# Altium integrated library Microchip Microcontroller 32-Bit PIC32.IntLib: 78 symbols (part 2 of 5)
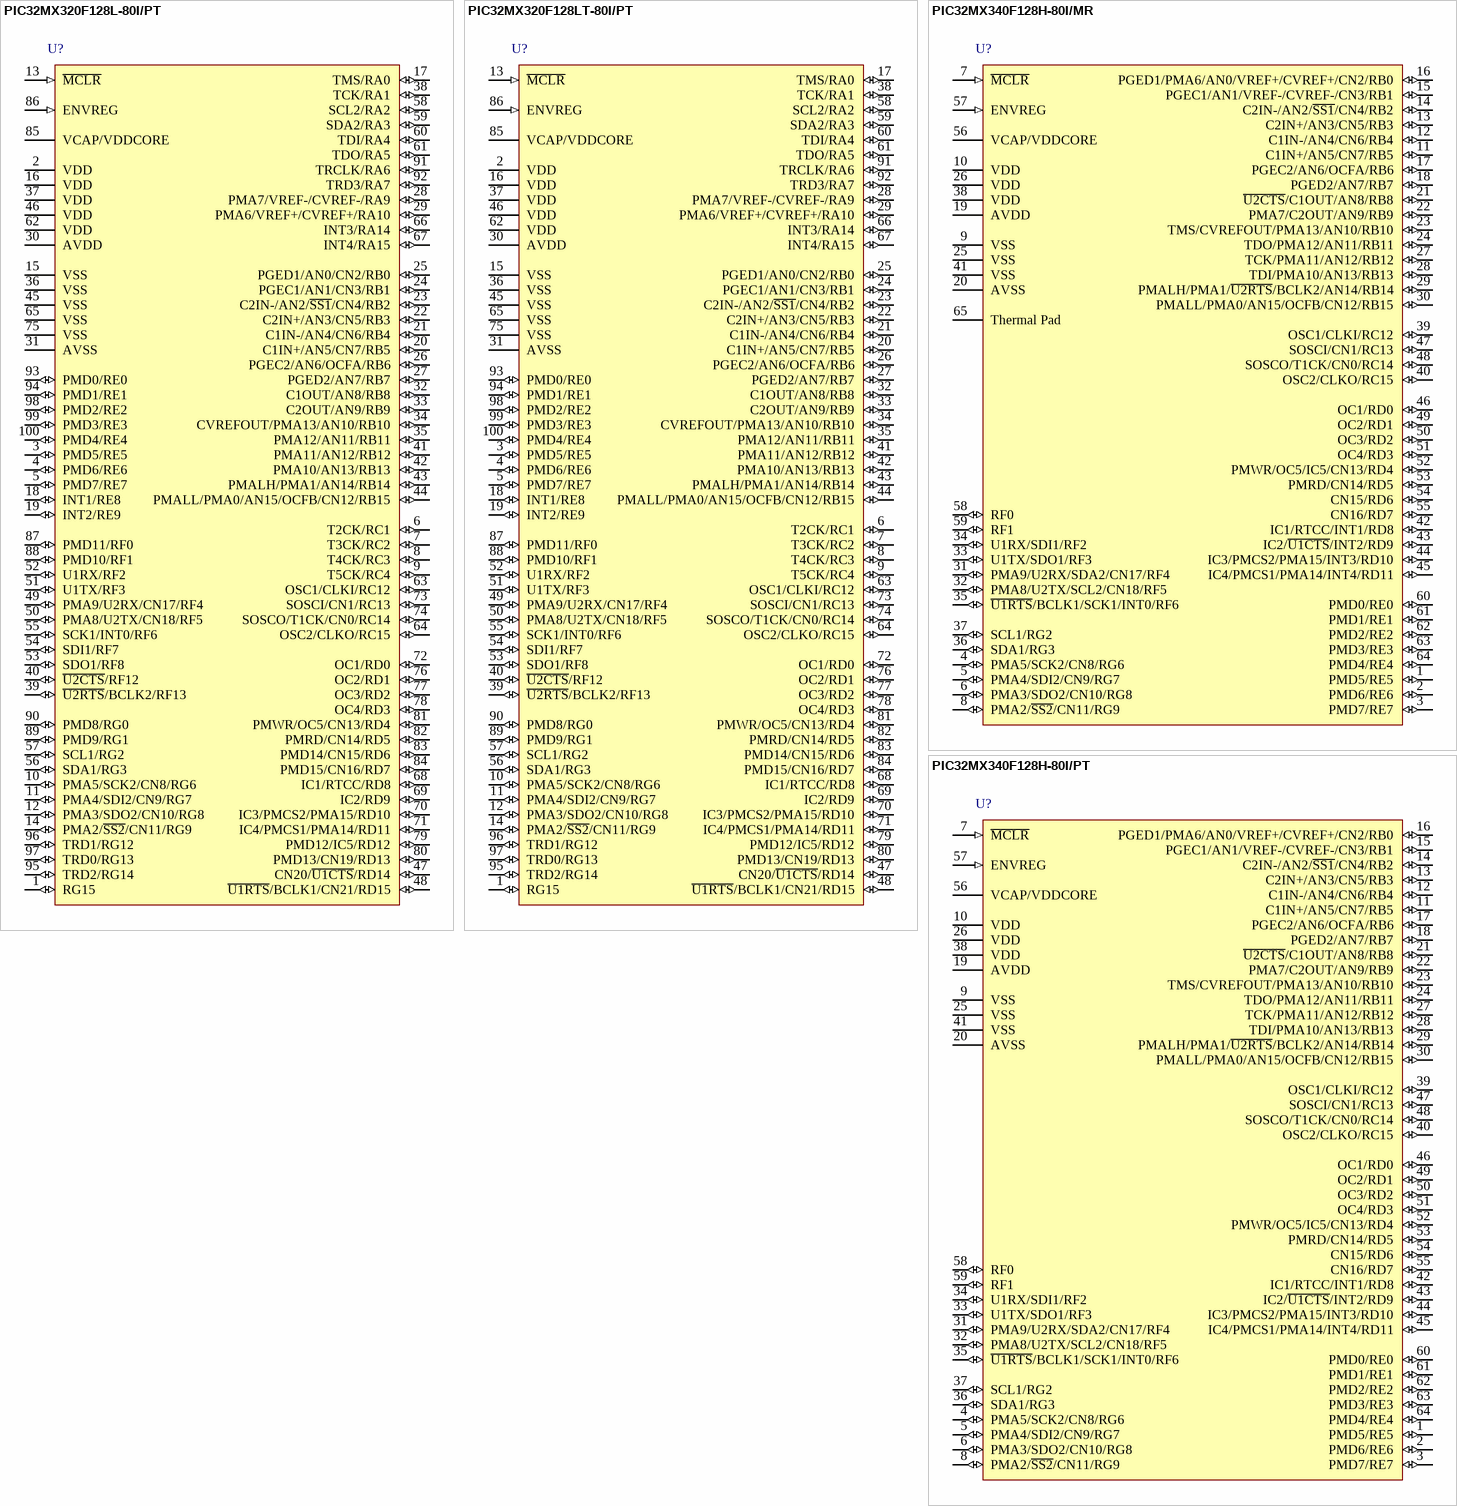
[diagram p23: symbols PIC32MX320F128L-80I/PT to PIC32MX340F128H-80I/PT]

## PIC32MX320F128LT-80I/PT
designator U?
High Performance 80 MHz MIPS-Based 32-Bit Flash Microcontroller, 128KB Program Memory, 100-pin TQFP, Tape and Reel; Published: 2-Dec-2009; DatasheetVersion: revF, Jun-2009; PackageVersion: revBB, Aug-2009; PackageReference: TQFP-PT100; Publisher: Altium Limited; PackageDescription: 100-Lead Plastic Thin Quad Flatpack (PT) - 12x12x1mm Body, 2.00mm [TQFP]; Supplier 1: Digi-Key; Supplier Part Number 1: PIC32MX320F128LT-80I/PT-ND; ComponentLink1Description: Datasheet; ComponentLink1URL: http://ww1.microchip.com/downloads/en/DeviceDoc/61143F.pdf; ComponentLink2Description: Packaging Specification; ComponentLink2URL: http://ww1.microchip.com/downloads/en/PackagingSpec/en012702.pdf; ComponentLink3Description: Microchip.com Home; ComponentLink3URL: http://www.microchip.com/
footprint TQFP-PT100_N (Thin QFP, 100-Leads, Body 12x12mm, Pitch 0.4mm, IPC Medium Density)
footprint TQFP-PT100_L (Thin QFP, 100-Leads, Body 12x12mm, Pitch 0.4mm, IPC High Density)
footprint TQFP-PT100_M (Thin QFP, 100-Leads, Body 12x12mm, Pitch 0.4mm, IPC Low Density)
pins: 1 RG15 (io), 2 VDD (power), 3 PMD5/RE5 (io), 4 PMD6/RE6 (io), 5 PMD7/RE7 (io), 6 T2CK/RC1 (io), 7 T3CK/RC2 (io), 8 T4CK/RC3 (io), 9 T5CK/RC4 (io), 10 PMA5/SCK2/CN8/RG6 (io), 11 PMA4/SDI2/CN9/RG7 (io), 12 PMA3/SDO2/CN10/RG8 (io), 13 ~{MCLR} (in), 14 PMA2/~{SS2}/CN11/RG9 (io), 15 VSS (power), 16 VDD (power), 17 TMS/RA0 (io), 18 INT1/RE8 (io), 19 INT2/RE9 (io), 20 C1IN+/AN5/CN7/RB5 (io), 21 C1IN-/AN4/CN6/RB4 (io), 22 C2IN+/AN3/CN5/RB3 (io), 23 C2IN-/AN2/~{SS1}/CN4/RB2 (io), 24 PGEC1/AN1/CN3/RB1 (io), 25 PGED1/AN0/CN2/RB0 (io), 26 PGEC2/AN6/OCFA/RB6 (io), 27 PGED2/AN7/RB7 (io), 28 PMA7/VREF-/CVREF-/RA9 (io), 29 PMA6/VREF+/CVREF+/RA10 (io), 30 AVDD (power), 31 AVSS (power), 32 C1OUT/AN8/RB8 (io), 33 C2OUT/AN9/RB9 (io), 34 CVREFOUT/PMA13/AN10/RB10 (io), 35 PMA12/AN11/RB11 (io), 36 VSS (power), 37 VDD (power), 38 TCK/RA1 (io), 39 ~{U2RTS}/BCLK2/RF13 (io), 40 ~{U2CTS}/RF12 (io), 41 PMA11/AN12/RB12 (io), 42 PMA10/AN13/RB13 (io), 43 PMALH/PMA1/AN14/RB14 (io), 44 PMALL/PMA0/AN15/OCFB/CN12/RB15 (io), 45 VSS (power), 46 VDD (power), 47 CN20/~{U1CTS}/RD14 (io), 48 ~{U1RTS}/BCLK1/CN21/RD15 (io), 49 PMA9/U2RX/CN17/RF4 (io), 50 PMA8/U2TX/CN18/RF5 (io), 51 U1TX/RF3 (io), 52 U1RX/RF2 (io), 53 SDO1/RF8 (io), 54 SDI1/RF7 (io), 55 SCK1/INT0/RF6 (io), 56 SDA1/RG3 (io), 57 SCL1/RG2 (io), 58 SCL2/RA2 (io), 59 SDA2/RA3 (io), 60 TDI/RA4 (io), 61 TDO/RA5 (io), 62 VDD (power), 63 OSC1/CLKI/RC12 (io), 64 OSC2/CLKO/RC15 (io), 65 VSS (power), 66 INT3/RA14 (io), 67 INT4/RA15 (io), 68 IC1/RTCC/RD8 (io), 69 IC2/RD9 (io), 70 IC3/PMCS2/PMA15/RD10 (io), 71 IC4/PMCS1/PMA14/RD11 (io), 72 OC1/RD0 (io), 73 SOSCI/CN1/RC13 (io), 74 SOSCO/T1CK/CN0/RC14 (io), 75 VSS (power), 76 OC2/RD1 (io), 77 OC3/RD2 (io), 78 OC4/RD3 (io), 79 PMD12/IC5/RD12 (io), 80 PMD13/CN19/RD13 (io), 81 PMWR/OC5/CN13/RD4 (io), 82 PMRD/CN14/RD5 (io), 83 PMD14/CN15/RD6 (io), 84 PMD15/CN16/RD7 (io), 85 VCAP/VDDCORE (power), 86 ENVREG (in), 87 PMD11/RF0 (io), 88 PMD10/RF1 (io), 89 PMD9/RG1 (io), 90 PMD8/RG0 (io), 91 TRCLK/RA6 (io), 92 TRD3/RA7 (io), 93 PMD0/RE0 (io), 94 PMD1/RE1 (io), 95 TRD2/RG14 (io), 96 TRD1/RG12 (io), 97 TRD0/RG13 (io), 98 PMD2/RE2 (io), 99 PMD3/RE3 (io), 100 PMD4/RE4 (io)

## PIC32MX340F128H-80I/MR
designator U?
High Performance 80 MHz MIPS-Based 32-Bit Flash Microcontroller, 128KB Program Memory, 64-pin QFN; Published: 2-Dec-2009; DatasheetVersion: revF, Jun-2009; PackageVersion: revBB, Aug-2009; PackageReference: QFN-MR64; Publisher: Altium Limited; PackageDescription: 64-Lead Plastic Quad Flat, No Lead Package (MR) - 9x9x0.9 mm Body [QFN]; Supplier 1: Digi-Key; Supplier Part Number 1: PIC32MX340F128H-80I/MR-ND; Supplier 2: Farnell; Supplier Part Number 2: 1740241; ComponentLink1Description: Datasheet; ComponentLink1URL: http://ww1.microchip.com/downloads/en/DeviceDoc/61143F.pdf; ComponentLink2Description: Packaging Specification; ComponentLink2URL: http://ww1.microchip.com/downloads/en/PackagingSpec/en012702.pdf; ComponentLink3Description: Microchip.com Home; ComponentLink3URL: http://www.microchip.com/
footprint QFN-MR64_N (QFN, 64-Leads, Body 9x9mm, Pitch 0.5mm, IPC Medium Density)
footprint QFN-MR64_L (QFN, 64-Leads, Body 9x9mm, Pitch 0.5mm, IPC High Density)
footprint QFN-MR64_M (QFN, 64-Leads, Body 9x9mm, Pitch 0.5mm, IPC Low Density)
pins: 1 PMD5/RE5 (io), 2 PMD6/RE6 (io), 3 PMD7/RE7 (io), 4 PMA5/SCK2/CN8/RG6 (io), 5 PMA4/SDI2/CN9/RG7 (io), 6 PMA3/SDO2/CN10/RG8 (io), 7 ~{MCLR} (in), 8 PMA2/~{SS2}/CN11/RG9 (io), 9 VSS (power), 10 VDD (power), 11 C1IN+/AN5/CN7/RB5 (io), 12 C1IN-/AN4/CN6/RB4 (io), 13 C2IN+/AN3/CN5/RB3 (io), 14 C2IN-/AN2/~{SS1}/CN4/RB2 (io), 15 PGEC1/AN1/VREF-/CVREF-/CN3/RB1 (io), 16 PGED1/PMA6/AN0/VREF+/CVREF+/CN2/RB0 (io), 17 PGEC2/AN6/OCFA/RB6 (io), 18 PGED2/AN7/RB7 (io), 19 AVDD (power), 20 AVSS (power), 21 ~{U2CTS}/C1OUT/AN8/RB8 (io), 22 PMA7/C2OUT/AN9/RB9 (io), 23 TMS/CVREFOUT/PMA13/AN10/RB10 (io), 24 TDO/PMA12/AN11/RB11 (io), 25 VSS (power), 26 VDD (power), 27 TCK/PMA11/AN12/RB12 (io), 28 TDI/PMA10/AN13/RB13 (io), 29 PMALH/PMA1/~{U2RTS}/BCLK2/AN14/RB14 (io), 30 PMALL/PMA0/AN15/OCFB/CN12/RB15 (io), 31 PMA9/U2RX/SDA2/CN17/RF4 (io), 32 PMA8/U2TX/SCL2/CN18/RF5 (io), 33 U1TX/SDO1/RF3 (io), 34 U1RX/SDI1/RF2 (io), 35 ~{U1RTS}/BCLK1/SCK1/INT0/RF6 (io), 36 SDA1/RG3 (io), 37 SCL1/RG2 (io), 38 VDD (power), 39 OSC1/CLKI/RC12 (io), 40 OSC2/CLKO/RC15 (io), 41 VSS (power), 42 IC1/RTCC/INT1/RD8 (io), 43 IC2/~{U1CTS}/INT2/RD9 (io), 44 IC3/PMCS2/PMA15/INT3/RD10 (io), 45 IC4/PMCS1/PMA14/INT4/RD11 (io), 46 OC1/RD0 (io), 47 SOSCI/CN1/RC13 (io), 48 SOSCO/T1CK/CN0/RC14 (io), 49 OC2/RD1 (io), 50 OC3/RD2 (io), 51 OC4/RD3 (io), 52 PMWR/OC5/IC5/CN13/RD4 (io), 53 PMRD/CN14/RD5 (io), 54 CN15/RD6 (io), 55 CN16/RD7 (io), 56 VCAP/VDDCORE (power), 57 ENVREG (in), 58 RF0 (io), 59 RF1 (io), 60 PMD0/RE0 (io), 61 PMD1/RE1 (io), 62 PMD2/RE2 (io), 63 PMD3/RE3 (io), 64 PMD4/RE4 (io), 65 Thermal Pad

## PIC32MX340F128H-80I/PT
designator U?
High Performance 80 MHz MIPS-Based 32-Bit Flash Microcontroller, 64KB Program Memory, 64-pin TQFP; Published: 2-Dec-2009; DatasheetVersion: revF, Jun-2009; PackageVersion: revBB, Aug-2009; PackageReference: TQFP-PT64; Publisher: Altium Limited; PackageDescription: 64-Lead Thin Plastic Quad Flat Pack (PT) - 10x10x1mm Body, 2.00mm [TQFP]; Supplier 1: Digi-Key; Supplier Part Number 1: PIC32MX340F128H-80I/PT-ND; Supplier 2: Farnell; Supplier Part Number 2: 1677914; Code_JEDEC: MS-026; ComponentLink1Description: Datasheet; ComponentLink1URL: http://ww1.microchip.com/downloads/en/DeviceDoc/61143F.pdf; ComponentLink2Description: Packaging Specification; ComponentLink2URL: http://ww1.microchip.com/downloads/en/PackagingSpec/en012702.pdf; ComponentLink3Description: Microchip.com Home; ComponentLink3URL: http://www.microchip.com/
footprint TQFP-PT64_N (Thin QFP, 64-Leads, Body 10x10mm, Pitch 0.5mm, IPC Medium Density)
footprint TQFP-PT64_L (Thin QFP, 64-Leads, Body 10x10mm, Pitch 0.5mm, IPC High Density)
footprint TQFP-PT64_M (Thin QFP, 64-Leads, Body 10x10mm, Pitch 0.5mm, IPC Low Density)
pins: 1 PMD5/RE5 (io), 2 PMD6/RE6 (io), 3 PMD7/RE7 (io), 4 PMA5/SCK2/CN8/RG6 (io), 5 PMA4/SDI2/CN9/RG7 (io), 6 PMA3/SDO2/CN10/RG8 (io), 7 ~{MCLR} (in), 8 PMA2/~{SS2}/CN11/RG9 (io), 9 VSS (power), 10 VDD (power), 11 C1IN+/AN5/CN7/RB5 (io), 12 C1IN-/AN4/CN6/RB4 (io), 13 C2IN+/AN3/CN5/RB3 (io), 14 C2IN-/AN2/~{SS1}/CN4/RB2 (io), 15 PGEC1/AN1/VREF-/CVREF-/CN3/RB1 (io), 16 PGED1/PMA6/AN0/VREF+/CVREF+/CN2/RB0 (io), 17 PGEC2/AN6/OCFA/RB6 (io), 18 PGED2/AN7/RB7 (io), 19 AVDD (power), 20 AVSS (power), 21 ~{U2CTS}/C1OUT/AN8/RB8 (io), 22 PMA7/C2OUT/AN9/RB9 (io), 23 TMS/CVREFOUT/PMA13/AN10/RB10 (io), 24 TDO/PMA12/AN11/RB11 (io), 25 VSS (power), 26 VDD (power), 27 TCK/PMA11/AN12/RB12 (io), 28 TDI/PMA10/AN13/RB13 (io), 29 PMALH/PMA1/~{U2RTS}/BCLK2/AN14/RB14 (io), 30 PMALL/PMA0/AN15/OCFB/CN12/RB15 (io), 31 PMA9/U2RX/SDA2/CN17/RF4 (io), 32 PMA8/U2TX/SCL2/CN18/RF5 (io), 33 U1TX/SDO1/RF3 (io), 34 U1RX/SDI1/RF2 (io), 35 ~{U1RTS}/BCLK1/SCK1/INT0/RF6 (io), 36 SDA1/RG3 (io), 37 SCL1/RG2 (io), 38 VDD (power), 39 OSC1/CLKI/RC12 (io), 40 OSC2/CLKO/RC15 (io), 41 VSS (power), 42 IC1/RTCC/INT1/RD8 (io), 43 IC2/~{U1CTS}/INT2/RD9 (io), 44 IC3/PMCS2/PMA15/INT3/RD10 (io), 45 IC4/PMCS1/PMA14/INT4/RD11 (io), 46 OC1/RD0 (io), 47 SOSCI/CN1/RC13 (io), 48 SOSCO/T1CK/CN0/RC14 (io), 49 OC2/RD1 (io), 50 OC3/RD2 (io), 51 OC4/RD3 (io), 52 PMWR/OC5/IC5/CN13/RD4 (io), 53 PMRD/CN14/RD5 (io), 54 CN15/RD6 (io), 55 CN16/RD7 (io), 56 VCAP/VDDCORE (power), 57 ENVREG (in), 58 RF0 (io), 59 RF1 (io), 60 PMD0/RE0 (io), 61 PMD1/RE1 (io), 62 PMD2/RE2 (io), 63 PMD3/RE3 (io), 64 PMD4/RE4 (io)

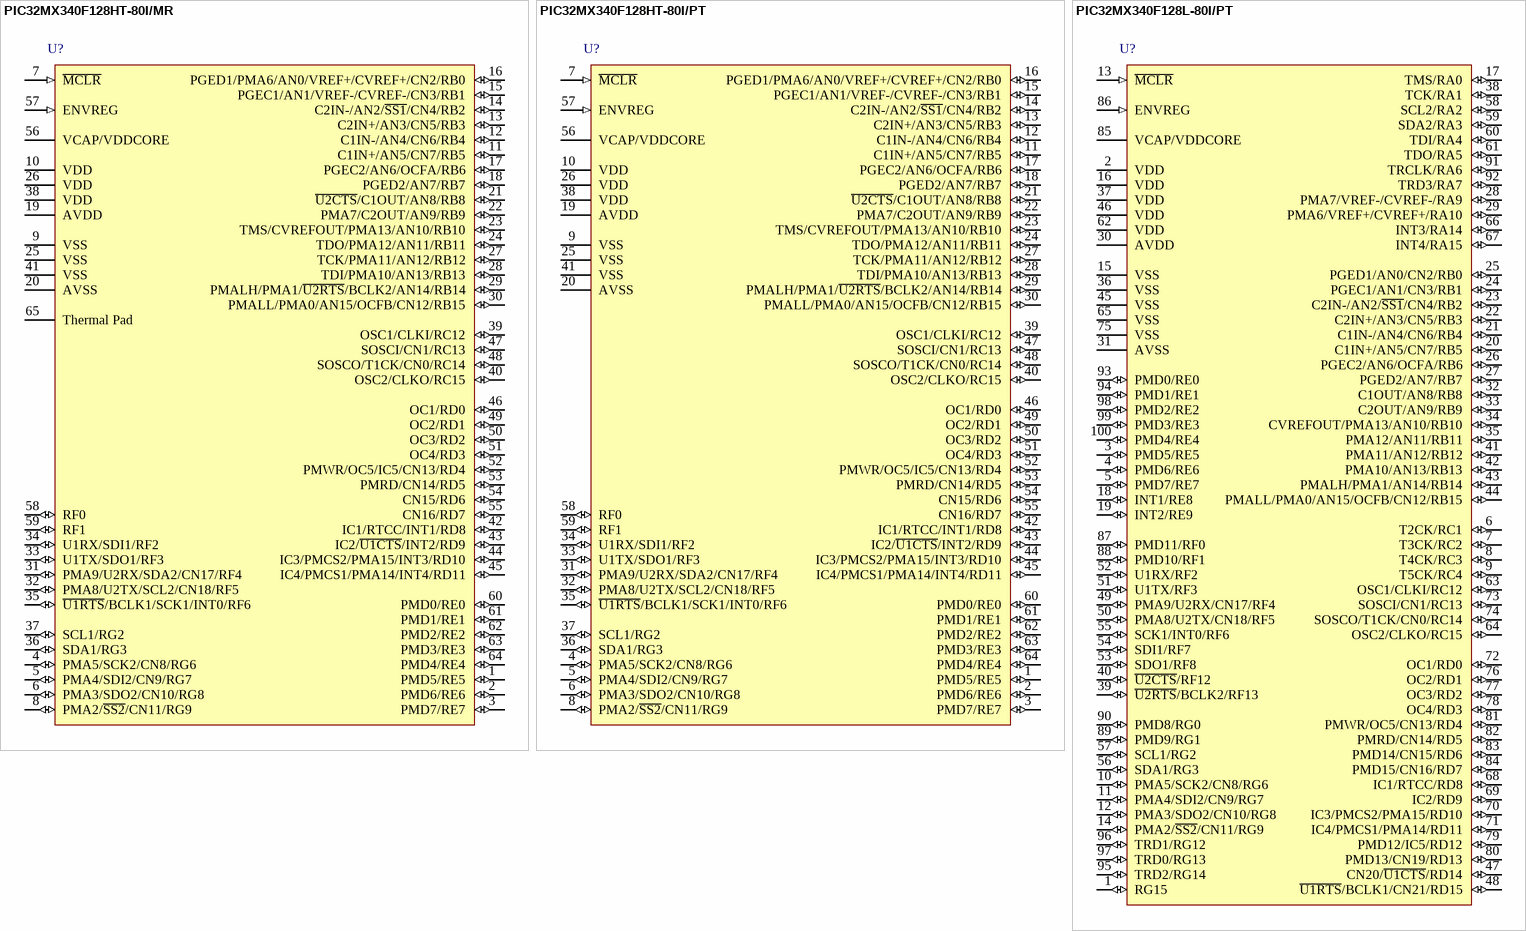
[diagram p4: symbols PIC32MX340F128HT-80I/MR to PIC32MX340F128L-80I/PT]

## PIC32MX340F128HT-80I/MR
designator U?
High Performance 80 MHz MIPS-Based 32-Bit Flash Microcontroller, 64KB Program Memory, 64-pin QFN, Tape and Reel; Published: 2-Dec-2009; DatasheetVersion: revF, Jun-2009; PackageVersion: revBB, Aug-2009; PackageReference: QFN-MR64; Publisher: Altium Limited; PackageDescription: 64-Lead Plastic Quad Flat, No Lead Package (MR) - 9x9x0.9 mm Body [QFN]; Supplier 1: Digi-Key; Supplier Part Number 1: PIC32MX340F128HT-80I/MR-ND; ComponentLink1Description: Datasheet; ComponentLink1URL: http://ww1.microchip.com/downloads/en/DeviceDoc/61143F.pdf; ComponentLink2Description: Packaging Specification; ComponentLink2URL: http://ww1.microchip.com/downloads/en/PackagingSpec/en012702.pdf; ComponentLink3Description: Microchip.com Home; ComponentLink3URL: http://www.microchip.com/
footprint QFN-MR64_N (QFN, 64-Leads, Body 9x9mm, Pitch 0.5mm, IPC Medium Density)
footprint QFN-MR64_L (QFN, 64-Leads, Body 9x9mm, Pitch 0.5mm, IPC High Density)
footprint QFN-MR64_M (QFN, 64-Leads, Body 9x9mm, Pitch 0.5mm, IPC Low Density)
pins: 1 PMD5/RE5 (io), 2 PMD6/RE6 (io), 3 PMD7/RE7 (io), 4 PMA5/SCK2/CN8/RG6 (io), 5 PMA4/SDI2/CN9/RG7 (io), 6 PMA3/SDO2/CN10/RG8 (io), 7 ~{MCLR} (in), 8 PMA2/~{SS2}/CN11/RG9 (io), 9 VSS (power), 10 VDD (power), 11 C1IN+/AN5/CN7/RB5 (io), 12 C1IN-/AN4/CN6/RB4 (io), 13 C2IN+/AN3/CN5/RB3 (io), 14 C2IN-/AN2/~{SS1}/CN4/RB2 (io), 15 PGEC1/AN1/VREF-/CVREF-/CN3/RB1 (io), 16 PGED1/PMA6/AN0/VREF+/CVREF+/CN2/RB0 (io), 17 PGEC2/AN6/OCFA/RB6 (io), 18 PGED2/AN7/RB7 (io), 19 AVDD (power), 20 AVSS (power), 21 ~{U2CTS}/C1OUT/AN8/RB8 (io), 22 PMA7/C2OUT/AN9/RB9 (io), 23 TMS/CVREFOUT/PMA13/AN10/RB10 (io), 24 TDO/PMA12/AN11/RB11 (io), 25 VSS (power), 26 VDD (power), 27 TCK/PMA11/AN12/RB12 (io), 28 TDI/PMA10/AN13/RB13 (io), 29 PMALH/PMA1/~{U2RTS}/BCLK2/AN14/RB14 (io), 30 PMALL/PMA0/AN15/OCFB/CN12/RB15 (io), 31 PMA9/U2RX/SDA2/CN17/RF4 (io), 32 PMA8/U2TX/SCL2/CN18/RF5 (io), 33 U1TX/SDO1/RF3 (io), 34 U1RX/SDI1/RF2 (io), 35 ~{U1RTS}/BCLK1/SCK1/INT0/RF6 (io), 36 SDA1/RG3 (io), 37 SCL1/RG2 (io), 38 VDD (power), 39 OSC1/CLKI/RC12 (io), 40 OSC2/CLKO/RC15 (io), 41 VSS (power), 42 IC1/RTCC/INT1/RD8 (io), 43 IC2/~{U1CTS}/INT2/RD9 (io), 44 IC3/PMCS2/PMA15/INT3/RD10 (io), 45 IC4/PMCS1/PMA14/INT4/RD11 (io), 46 OC1/RD0 (io), 47 SOSCI/CN1/RC13 (io), 48 SOSCO/T1CK/CN0/RC14 (io), 49 OC2/RD1 (io), 50 OC3/RD2 (io), 51 OC4/RD3 (io), 52 PMWR/OC5/IC5/CN13/RD4 (io), 53 PMRD/CN14/RD5 (io), 54 CN15/RD6 (io), 55 CN16/RD7 (io), 56 VCAP/VDDCORE (power), 57 ENVREG (in), 58 RF0 (io), 59 RF1 (io), 60 PMD0/RE0 (io), 61 PMD1/RE1 (io), 62 PMD2/RE2 (io), 63 PMD3/RE3 (io), 64 PMD4/RE4 (io), 65 Thermal Pad

## PIC32MX340F128HT-80I/PT
designator U?
High Performance 80 MHz MIPS-Based 32-Bit Flash Microcontroller, 128KB Program Memory, 64-pin TQFP, Tape and Reel; Published: 29-Jan-2009; LatestRevisionDate: 2-Dec-2009; LatestRevisionNote: Datasheet updated to version revF, Jun-2009.; DatasheetVersion: revF, Jun-2009; PackageVersion: revBB, Aug-2009; PackageReference: TQFP-PT64; Publisher: Altium Limited; PackageDescription: 64-Lead Thin Plastic Quad Flat Pack (PT) - 10x10x1mm Body, 2.00mm [TQFP]; Supplier 1: Digi-Key; Supplier Part Number 1: PIC32MX340F128HT-80I/PT-ND; Code_JEDEC: MS-026; ComponentLink1Description: Datasheet; ComponentLink1URL: http://ww1.microchip.com/downloads/en/DeviceDoc/61143F.pdf; ComponentLink2Description: Packaging Specification; ComponentLink2URL: http://ww1.microchip.com/downloads/en/PackagingSpec/en012702.pdf; ComponentLink3Description: Microchip.com Home; ComponentLink3URL: http://www.microchip.com/
footprint TQFP-PT64_N (Thin QFP, 64-Leads, Body 10x10mm, Pitch 0.5mm, IPC Medium Density)
footprint TQFP-PT64_L (Thin QFP, 64-Leads, Body 10x10mm, Pitch 0.5mm, IPC High Density)
footprint TQFP-PT64_M (Thin QFP, 64-Leads, Body 10x10mm, Pitch 0.5mm, IPC Low Density)
pins: 1 PMD5/RE5 (io), 2 PMD6/RE6 (io), 3 PMD7/RE7 (io), 4 PMA5/SCK2/CN8/RG6 (io), 5 PMA4/SDI2/CN9/RG7 (io), 6 PMA3/SDO2/CN10/RG8 (io), 7 ~{MCLR} (in), 8 PMA2/~{SS2}/CN11/RG9 (io), 9 VSS (power), 10 VDD (power), 11 C1IN+/AN5/CN7/RB5 (io), 12 C1IN-/AN4/CN6/RB4 (io), 13 C2IN+/AN3/CN5/RB3 (io), 14 C2IN-/AN2/~{SS1}/CN4/RB2 (io), 15 PGEC1/AN1/VREF-/CVREF-/CN3/RB1 (io), 16 PGED1/PMA6/AN0/VREF+/CVREF+/CN2/RB0 (io), 17 PGEC2/AN6/OCFA/RB6 (io), 18 PGED2/AN7/RB7 (io), 19 AVDD (power), 20 AVSS (power), 21 ~{U2CTS}/C1OUT/AN8/RB8 (io), 22 PMA7/C2OUT/AN9/RB9 (io), 23 TMS/CVREFOUT/PMA13/AN10/RB10 (io), 24 TDO/PMA12/AN11/RB11 (io), 25 VSS (power), 26 VDD (power), 27 TCK/PMA11/AN12/RB12 (io), 28 TDI/PMA10/AN13/RB13 (io), 29 PMALH/PMA1/~{U2RTS}/BCLK2/AN14/RB14 (io), 30 PMALL/PMA0/AN15/OCFB/CN12/RB15 (io), 31 PMA9/U2RX/SDA2/CN17/RF4 (io), 32 PMA8/U2TX/SCL2/CN18/RF5 (io), 33 U1TX/SDO1/RF3 (io), 34 U1RX/SDI1/RF2 (io), 35 ~{U1RTS}/BCLK1/SCK1/INT0/RF6 (io), 36 SDA1/RG3 (io), 37 SCL1/RG2 (io), 38 VDD (power), 39 OSC1/CLKI/RC12 (io), 40 OSC2/CLKO/RC15 (io), 41 VSS (power), 42 IC1/RTCC/INT1/RD8 (io), 43 IC2/~{U1CTS}/INT2/RD9 (io), 44 IC3/PMCS2/PMA15/INT3/RD10 (io), 45 IC4/PMCS1/PMA14/INT4/RD11 (io), 46 OC1/RD0 (io), 47 SOSCI/CN1/RC13 (io), 48 SOSCO/T1CK/CN0/RC14 (io), 49 OC2/RD1 (io), 50 OC3/RD2 (io), 51 OC4/RD3 (io), 52 PMWR/OC5/IC5/CN13/RD4 (io), 53 PMRD/CN14/RD5 (io), 54 CN15/RD6 (io), 55 CN16/RD7 (io), 56 VCAP/VDDCORE (power), 57 ENVREG (in), 58 RF0 (io), 59 RF1 (io), 60 PMD0/RE0 (io), 61 PMD1/RE1 (io), 62 PMD2/RE2 (io), 63 PMD3/RE3 (io), 64 PMD4/RE4 (io)

## PIC32MX340F128L-80I/PT
designator U?
High Performance 80 MHz MIPS-Based 32-Bit Flash Microcontroller, 128KB Program Memory, 100-pin TQFP; Published: 29-Jan-2009; LatestRevisionDate: 2-Dec-2009; LatestRevisionNote: Datasheet updated to version revF, Jun-2009.; DatasheetVersion: revF, Jun-2009; PackageVersion: revBB, Aug-2009; PackageReference: TQFP-PT100; Publisher: Altium Limited; PackageDescription: 100-Lead Plastic Thin Quad Flatpack (PT) - 12x12x1mm Body, 2.00mm [TQFP]; Supplier 1: Digi-Key; Supplier Part Number 1: PIC32MX340F128L-80I/PT-ND; Supplier 2: Farnell; Supplier Part Number 2: 1677916; ComponentLink1Description: Datasheet; ComponentLink1URL: http://ww1.microchip.com/downloads/en/DeviceDoc/61143F.pdf; ComponentLink2Description: Packaging Specification; ComponentLink2URL: http://ww1.microchip.com/downloads/en/PackagingSpec/en012702.pdf; ComponentLink3Description: Microchip.com Home; ComponentLink3URL: http://www.microchip.com/
footprint TQFP-PT100_N (Thin QFP, 100-Leads, Body 12x12mm, Pitch 0.4mm, IPC Medium Density)
footprint TQFP-PT100_L (Thin QFP, 100-Leads, Body 12x12mm, Pitch 0.4mm, IPC High Density)
footprint TQFP-PT100_M (Thin QFP, 100-Leads, Body 12x12mm, Pitch 0.4mm, IPC Low Density)
pins: 1 RG15 (io), 2 VDD (power), 3 PMD5/RE5 (io), 4 PMD6/RE6 (io), 5 PMD7/RE7 (io), 6 T2CK/RC1 (io), 7 T3CK/RC2 (io), 8 T4CK/RC3 (io), 9 T5CK/RC4 (io), 10 PMA5/SCK2/CN8/RG6 (io), 11 PMA4/SDI2/CN9/RG7 (io), 12 PMA3/SDO2/CN10/RG8 (io), 13 ~{MCLR} (in), 14 PMA2/~{SS2}/CN11/RG9 (io), 15 VSS (power), 16 VDD (power), 17 TMS/RA0 (io), 18 INT1/RE8 (io), 19 INT2/RE9 (io), 20 C1IN+/AN5/CN7/RB5 (io), 21 C1IN-/AN4/CN6/RB4 (io), 22 C2IN+/AN3/CN5/RB3 (io), 23 C2IN-/AN2/~{SS1}/CN4/RB2 (io), 24 PGEC1/AN1/CN3/RB1 (io), 25 PGED1/AN0/CN2/RB0 (io), 26 PGEC2/AN6/OCFA/RB6 (io), 27 PGED2/AN7/RB7 (io), 28 PMA7/VREF-/CVREF-/RA9 (io), 29 PMA6/VREF+/CVREF+/RA10 (io), 30 AVDD (power), 31 AVSS (power), 32 C1OUT/AN8/RB8 (io), 33 C2OUT/AN9/RB9 (io), 34 CVREFOUT/PMA13/AN10/RB10 (io), 35 PMA12/AN11/RB11 (io), 36 VSS (power), 37 VDD (power), 38 TCK/RA1 (io), 39 ~{U2RTS}/BCLK2/RF13 (io), 40 ~{U2CTS}/RF12 (io), 41 PMA11/AN12/RB12 (io), 42 PMA10/AN13/RB13 (io), 43 PMALH/PMA1/AN14/RB14 (io), 44 PMALL/PMA0/AN15/OCFB/CN12/RB15 (io), 45 VSS (power), 46 VDD (power), 47 CN20/~{U1CTS}/RD14 (io), 48 ~{U1RTS}/BCLK1/CN21/RD15 (io), 49 PMA9/U2RX/CN17/RF4 (io), 50 PMA8/U2TX/CN18/RF5 (io), 51 U1TX/RF3 (io), 52 U1RX/RF2 (io), 53 SDO1/RF8 (io), 54 SDI1/RF7 (io), 55 SCK1/INT0/RF6 (io), 56 SDA1/RG3 (io), 57 SCL1/RG2 (io), 58 SCL2/RA2 (io), 59 SDA2/RA3 (io), 60 TDI/RA4 (io), 61 TDO/RA5 (io), 62 VDD (power), 63 OSC1/CLKI/RC12 (io), 64 OSC2/CLKO/RC15 (io), 65 VSS (power), 66 INT3/RA14 (io), 67 INT4/RA15 (io), 68 IC1/RTCC/RD8 (io), 69 IC2/RD9 (io), 70 IC3/PMCS2/PMA15/RD10 (io), 71 IC4/PMCS1/PMA14/RD11 (io), 72 OC1/RD0 (io), 73 SOSCI/CN1/RC13 (io), 74 SOSCO/T1CK/CN0/RC14 (io), 75 VSS (power), 76 OC2/RD1 (io), 77 OC3/RD2 (io), 78 OC4/RD3 (io), 79 PMD12/IC5/RD12 (io), 80 PMD13/CN19/RD13 (io), 81 PMWR/OC5/CN13/RD4 (io), 82 PMRD/CN14/RD5 (io), 83 PMD14/CN15/RD6 (io), 84 PMD15/CN16/RD7 (io), 85 VCAP/VDDCORE (power), 86 ENVREG (in), 87 PMD11/RF0 (io), 88 PMD10/RF1 (io), 89 PMD9/RG1 (io), 90 PMD8/RG0 (io), 91 TRCLK/RA6 (io), 92 TRD3/RA7 (io), 93 PMD0/RE0 (io), 94 PMD1/RE1 (io), 95 TRD2/RG14 (io), 96 TRD1/RG12 (io), 97 TRD0/RG13 (io), 98 PMD2/RE2 (io), 99 PMD3/RE3 (io), 100 PMD4/RE4 (io)

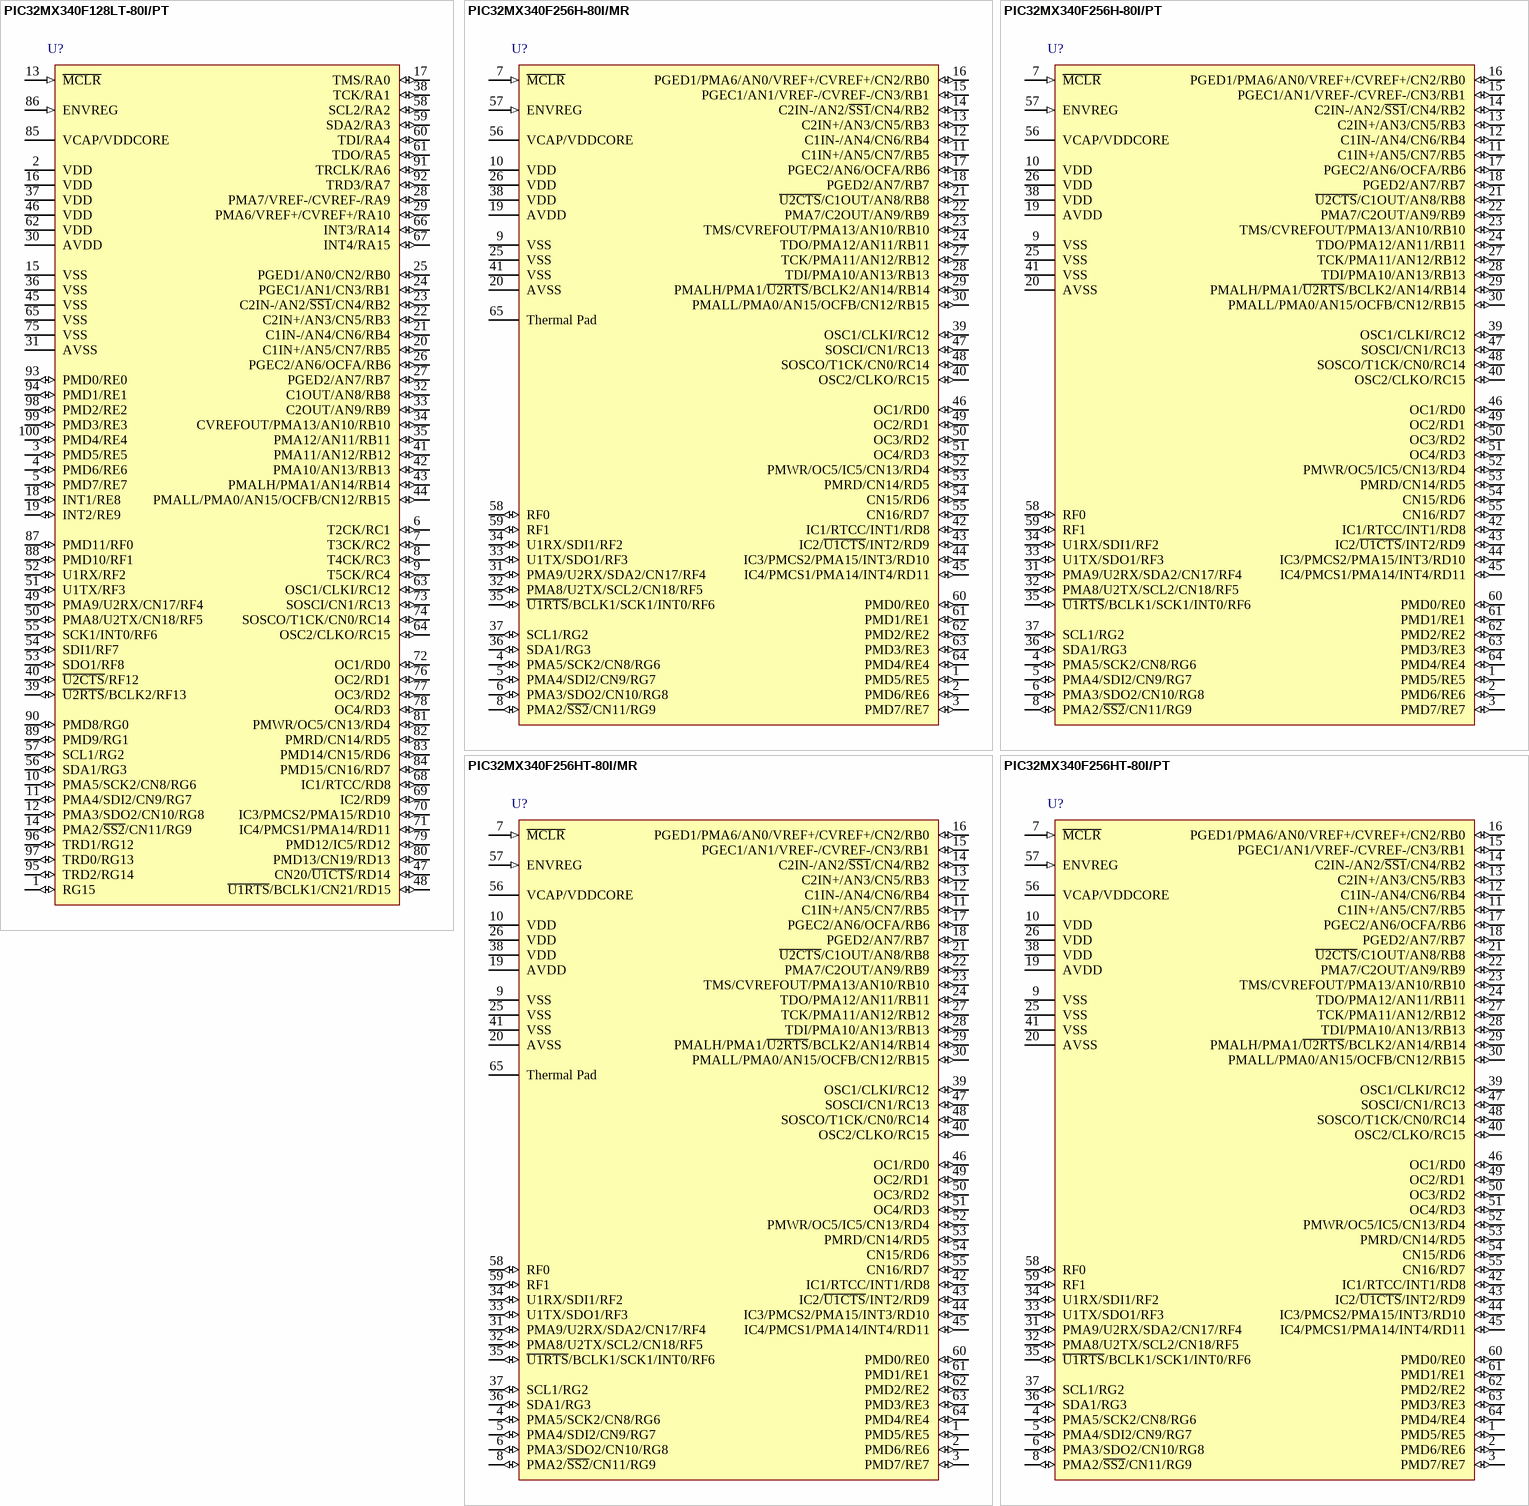
[diagram p5: symbols PIC32MX340F128LT-80I/PT to PIC32MX340F256HT-80I/PT]

## PIC32MX340F128LT-80I/PT
designator U?
High Performance 80 MHz MIPS-Based 32-Bit Flash Microcontroller, 128KB Program Memory, 100-pin TQFP, Tape and Reel; Published: 2-Dec-2009; DatasheetVersion: revF, Jun-2009; PackageVersion: revBB, Aug-2009; PackageReference: TQFP-PT100; Publisher: Altium Limited; PackageDescription: 100-Lead Plastic Thin Quad Flatpack (PT) - 12x12x1mm Body, 2.00mm [TQFP]; Supplier 1: Digi-Key; Supplier Part Number 1: PIC32MX340F128LT-80I/PT-ND; ComponentLink1Description: Datasheet; ComponentLink1URL: http://ww1.microchip.com/downloads/en/DeviceDoc/61143F.pdf; ComponentLink2Description: Packaging Specification; ComponentLink2URL: http://ww1.microchip.com/downloads/en/PackagingSpec/en012702.pdf; ComponentLink3Description: Microchip.com Home; ComponentLink3URL: http://www.microchip.com/
footprint TQFP-PT100_N (Thin QFP, 100-Leads, Body 12x12mm, Pitch 0.4mm, IPC Medium Density)
footprint TQFP-PT100_L (Thin QFP, 100-Leads, Body 12x12mm, Pitch 0.4mm, IPC High Density)
footprint TQFP-PT100_M (Thin QFP, 100-Leads, Body 12x12mm, Pitch 0.4mm, IPC Low Density)
pins: 1 RG15 (io), 2 VDD (power), 3 PMD5/RE5 (io), 4 PMD6/RE6 (io), 5 PMD7/RE7 (io), 6 T2CK/RC1 (io), 7 T3CK/RC2 (io), 8 T4CK/RC3 (io), 9 T5CK/RC4 (io), 10 PMA5/SCK2/CN8/RG6 (io), 11 PMA4/SDI2/CN9/RG7 (io), 12 PMA3/SDO2/CN10/RG8 (io), 13 ~{MCLR} (in), 14 PMA2/~{SS2}/CN11/RG9 (io), 15 VSS (power), 16 VDD (power), 17 TMS/RA0 (io), 18 INT1/RE8 (io), 19 INT2/RE9 (io), 20 C1IN+/AN5/CN7/RB5 (io), 21 C1IN-/AN4/CN6/RB4 (io), 22 C2IN+/AN3/CN5/RB3 (io), 23 C2IN-/AN2/~{SS1}/CN4/RB2 (io), 24 PGEC1/AN1/CN3/RB1 (io), 25 PGED1/AN0/CN2/RB0 (io), 26 PGEC2/AN6/OCFA/RB6 (io), 27 PGED2/AN7/RB7 (io), 28 PMA7/VREF-/CVREF-/RA9 (io), 29 PMA6/VREF+/CVREF+/RA10 (io), 30 AVDD (power), 31 AVSS (power), 32 C1OUT/AN8/RB8 (io), 33 C2OUT/AN9/RB9 (io), 34 CVREFOUT/PMA13/AN10/RB10 (io), 35 PMA12/AN11/RB11 (io), 36 VSS (power), 37 VDD (power), 38 TCK/RA1 (io), 39 ~{U2RTS}/BCLK2/RF13 (io), 40 ~{U2CTS}/RF12 (io), 41 PMA11/AN12/RB12 (io), 42 PMA10/AN13/RB13 (io), 43 PMALH/PMA1/AN14/RB14 (io), 44 PMALL/PMA0/AN15/OCFB/CN12/RB15 (io), 45 VSS (power), 46 VDD (power), 47 CN20/~{U1CTS}/RD14 (io), 48 ~{U1RTS}/BCLK1/CN21/RD15 (io), 49 PMA9/U2RX/CN17/RF4 (io), 50 PMA8/U2TX/CN18/RF5 (io), 51 U1TX/RF3 (io), 52 U1RX/RF2 (io), 53 SDO1/RF8 (io), 54 SDI1/RF7 (io), 55 SCK1/INT0/RF6 (io), 56 SDA1/RG3 (io), 57 SCL1/RG2 (io), 58 SCL2/RA2 (io), 59 SDA2/RA3 (io), 60 TDI/RA4 (io), 61 TDO/RA5 (io), 62 VDD (power), 63 OSC1/CLKI/RC12 (io), 64 OSC2/CLKO/RC15 (io), 65 VSS (power), 66 INT3/RA14 (io), 67 INT4/RA15 (io), 68 IC1/RTCC/RD8 (io), 69 IC2/RD9 (io), 70 IC3/PMCS2/PMA15/RD10 (io), 71 IC4/PMCS1/PMA14/RD11 (io), 72 OC1/RD0 (io), 73 SOSCI/CN1/RC13 (io), 74 SOSCO/T1CK/CN0/RC14 (io), 75 VSS (power), 76 OC2/RD1 (io), 77 OC3/RD2 (io), 78 OC4/RD3 (io), 79 PMD12/IC5/RD12 (io), 80 PMD13/CN19/RD13 (io), 81 PMWR/OC5/CN13/RD4 (io), 82 PMRD/CN14/RD5 (io), 83 PMD14/CN15/RD6 (io), 84 PMD15/CN16/RD7 (io), 85 VCAP/VDDCORE (power), 86 ENVREG (in), 87 PMD11/RF0 (io), 88 PMD10/RF1 (io), 89 PMD9/RG1 (io), 90 PMD8/RG0 (io), 91 TRCLK/RA6 (io), 92 TRD3/RA7 (io), 93 PMD0/RE0 (io), 94 PMD1/RE1 (io), 95 TRD2/RG14 (io), 96 TRD1/RG12 (io), 97 TRD0/RG13 (io), 98 PMD2/RE2 (io), 99 PMD3/RE3 (io), 100 PMD4/RE4 (io)

## PIC32MX340F256H-80I/MR
designator U?
High Performance 80 MHz MIPS-Based 32-Bit Flash Microcontroller, 256KB Program Memory, 64-pin QFN; Published: 2-Dec-2009; DatasheetVersion: revF, Jun-2009; PackageVersion: revBB, Aug-2009; PackageReference: QFN-MR64; Publisher: Altium Limited; PackageDescription: 64-Lead Plastic Quad Flat, No Lead Package (MR) - 9x9x0.9 mm Body [QFN]; Supplier 1: Digi-Key; Supplier Part Number 1: PIC32MX340F256H-80I/MR-ND; Supplier 2: Farnell; Supplier Part Number 2: 1778940; ComponentLink1Description: Datasheet; ComponentLink1URL: http://ww1.microchip.com/downloads/en/DeviceDoc/61143F.pdf; ComponentLink2Description: Packaging Specification; ComponentLink2URL: http://ww1.microchip.com/downloads/en/PackagingSpec/en012702.pdf; ComponentLink3Description: Microchip.com Home; ComponentLink3URL: http://www.microchip.com/
footprint QFN-MR64_N (QFN, 64-Leads, Body 9x9mm, Pitch 0.5mm, IPC Medium Density)
footprint QFN-MR64_L (QFN, 64-Leads, Body 9x9mm, Pitch 0.5mm, IPC High Density)
footprint QFN-MR64_M (QFN, 64-Leads, Body 9x9mm, Pitch 0.5mm, IPC Low Density)
pins: 1 PMD5/RE5 (io), 2 PMD6/RE6 (io), 3 PMD7/RE7 (io), 4 PMA5/SCK2/CN8/RG6 (io), 5 PMA4/SDI2/CN9/RG7 (io), 6 PMA3/SDO2/CN10/RG8 (io), 7 ~{MCLR} (in), 8 PMA2/~{SS2}/CN11/RG9 (io), 9 VSS (power), 10 VDD (power), 11 C1IN+/AN5/CN7/RB5 (io), 12 C1IN-/AN4/CN6/RB4 (io), 13 C2IN+/AN3/CN5/RB3 (io), 14 C2IN-/AN2/~{SS1}/CN4/RB2 (io), 15 PGEC1/AN1/VREF-/CVREF-/CN3/RB1 (io), 16 PGED1/PMA6/AN0/VREF+/CVREF+/CN2/RB0 (io), 17 PGEC2/AN6/OCFA/RB6 (io), 18 PGED2/AN7/RB7 (io), 19 AVDD (power), 20 AVSS (power), 21 ~{U2CTS}/C1OUT/AN8/RB8 (io), 22 PMA7/C2OUT/AN9/RB9 (io), 23 TMS/CVREFOUT/PMA13/AN10/RB10 (io), 24 TDO/PMA12/AN11/RB11 (io), 25 VSS (power), 26 VDD (power), 27 TCK/PMA11/AN12/RB12 (io), 28 TDI/PMA10/AN13/RB13 (io), 29 PMALH/PMA1/~{U2RTS}/BCLK2/AN14/RB14 (io), 30 PMALL/PMA0/AN15/OCFB/CN12/RB15 (io), 31 PMA9/U2RX/SDA2/CN17/RF4 (io), 32 PMA8/U2TX/SCL2/CN18/RF5 (io), 33 U1TX/SDO1/RF3 (io), 34 U1RX/SDI1/RF2 (io), 35 ~{U1RTS}/BCLK1/SCK1/INT0/RF6 (io), 36 SDA1/RG3 (io), 37 SCL1/RG2 (io), 38 VDD (power), 39 OSC1/CLKI/RC12 (io), 40 OSC2/CLKO/RC15 (io), 41 VSS (power), 42 IC1/RTCC/INT1/RD8 (io), 43 IC2/~{U1CTS}/INT2/RD9 (io), 44 IC3/PMCS2/PMA15/INT3/RD10 (io), 45 IC4/PMCS1/PMA14/INT4/RD11 (io), 46 OC1/RD0 (io), 47 SOSCI/CN1/RC13 (io), 48 SOSCO/T1CK/CN0/RC14 (io), 49 OC2/RD1 (io), 50 OC3/RD2 (io), 51 OC4/RD3 (io), 52 PMWR/OC5/IC5/CN13/RD4 (io), 53 PMRD/CN14/RD5 (io), 54 CN15/RD6 (io), 55 CN16/RD7 (io), 56 VCAP/VDDCORE (power), 57 ENVREG (in), 58 RF0 (io), 59 RF1 (io), 60 PMD0/RE0 (io), 61 PMD1/RE1 (io), 62 PMD2/RE2 (io), 63 PMD3/RE3 (io), 64 PMD4/RE4 (io), 65 Thermal Pad

## PIC32MX340F256H-80I/PT
designator U?
High Performance 80 MHz MIPS-Based 32-Bit Flash Microcontroller, 256KB Program Memory, 64-pin TQFP; Published: 29-Jan-2009; LatestRevisionDate: 2-Dec-2009; LatestRevisionNote: Datasheet updated to version revF, Jun-2009.; DatasheetVersion: revF, Jun-2009; PackageVersion: revBB, Aug-2009; PackageReference: TQFP-PT64; Publisher: Altium Limited; PackageDescription: 64-Lead Thin Plastic Quad Flat Pack (PT) - 10x10x1mm Body, 2.00mm [TQFP]; Supplier 1: Digi-Key; Supplier Part Number 1: PIC32MX340F256H-80I/PT-ND; Supplier 2: Farnell; Supplier Part Number 2: 1523322; Code_JEDEC: MS-026; ComponentLink1Description: Datasheet; ComponentLink1URL: http://ww1.microchip.com/downloads/en/DeviceDoc/61143F.pdf; ComponentLink2Description: Packaging Specification; ComponentLink2URL: http://ww1.microchip.com/downloads/en/PackagingSpec/en012702.pdf; ComponentLink3Description: Microchip.com Home; ComponentLink3URL: http://www.microchip.com/
footprint TQFP-PT64_N (Thin QFP, 64-Leads, Body 10x10mm, Pitch 0.5mm, IPC Medium Density)
footprint TQFP-PT64_L (Thin QFP, 64-Leads, Body 10x10mm, Pitch 0.5mm, IPC High Density)
footprint TQFP-PT64_M (Thin QFP, 64-Leads, Body 10x10mm, Pitch 0.5mm, IPC Low Density)
pins: 1 PMD5/RE5 (io), 2 PMD6/RE6 (io), 3 PMD7/RE7 (io), 4 PMA5/SCK2/CN8/RG6 (io), 5 PMA4/SDI2/CN9/RG7 (io), 6 PMA3/SDO2/CN10/RG8 (io), 7 ~{MCLR} (in), 8 PMA2/~{SS2}/CN11/RG9 (io), 9 VSS (power), 10 VDD (power), 11 C1IN+/AN5/CN7/RB5 (io), 12 C1IN-/AN4/CN6/RB4 (io), 13 C2IN+/AN3/CN5/RB3 (io), 14 C2IN-/AN2/~{SS1}/CN4/RB2 (io), 15 PGEC1/AN1/VREF-/CVREF-/CN3/RB1 (io), 16 PGED1/PMA6/AN0/VREF+/CVREF+/CN2/RB0 (io), 17 PGEC2/AN6/OCFA/RB6 (io), 18 PGED2/AN7/RB7 (io), 19 AVDD (power), 20 AVSS (power), 21 ~{U2CTS}/C1OUT/AN8/RB8 (io), 22 PMA7/C2OUT/AN9/RB9 (io), 23 TMS/CVREFOUT/PMA13/AN10/RB10 (io), 24 TDO/PMA12/AN11/RB11 (io), 25 VSS (power), 26 VDD (power), 27 TCK/PMA11/AN12/RB12 (io), 28 TDI/PMA10/AN13/RB13 (io), 29 PMALH/PMA1/~{U2RTS}/BCLK2/AN14/RB14 (io), 30 PMALL/PMA0/AN15/OCFB/CN12/RB15 (io), 31 PMA9/U2RX/SDA2/CN17/RF4 (io), 32 PMA8/U2TX/SCL2/CN18/RF5 (io), 33 U1TX/SDO1/RF3 (io), 34 U1RX/SDI1/RF2 (io), 35 ~{U1RTS}/BCLK1/SCK1/INT0/RF6 (io), 36 SDA1/RG3 (io), 37 SCL1/RG2 (io), 38 VDD (power), 39 OSC1/CLKI/RC12 (io), 40 OSC2/CLKO/RC15 (io), 41 VSS (power), 42 IC1/RTCC/INT1/RD8 (io), 43 IC2/~{U1CTS}/INT2/RD9 (io), 44 IC3/PMCS2/PMA15/INT3/RD10 (io), 45 IC4/PMCS1/PMA14/INT4/RD11 (io), 46 OC1/RD0 (io), 47 SOSCI/CN1/RC13 (io), 48 SOSCO/T1CK/CN0/RC14 (io), 49 OC2/RD1 (io), 50 OC3/RD2 (io), 51 OC4/RD3 (io), 52 PMWR/OC5/IC5/CN13/RD4 (io), 53 PMRD/CN14/RD5 (io), 54 CN15/RD6 (io), 55 CN16/RD7 (io), 56 VCAP/VDDCORE (power), 57 ENVREG (in), 58 RF0 (io), 59 RF1 (io), 60 PMD0/RE0 (io), 61 PMD1/RE1 (io), 62 PMD2/RE2 (io), 63 PMD3/RE3 (io), 64 PMD4/RE4 (io)

## PIC32MX340F256HT-80I/MR
designator U?
High Performance 80 MHz MIPS-Based 32-Bit Flash Microcontroller, 256KB Program Memory, 64-pin QFN, Tape and Reel; Published: 2-Dec-2009; DatasheetVersion: revF, Jun-2009; PackageVersion: revBB, Aug-2009; PackageReference: QFN-MR64; Publisher: Altium Limited; PackageDescription: 64-Lead Plastic Quad Flat, No Lead Package (MR) - 9x9x0.9 mm Body [QFN]; Supplier 1: Digi-Key; Supplier Part Number 1: PIC32MX340F256HT-80I/MR-ND; ComponentLink1Description: Datasheet; ComponentLink1URL: http://ww1.microchip.com/downloads/en/DeviceDoc/61143F.pdf; ComponentLink2Description: Packaging Specification; ComponentLink2URL: http://ww1.microchip.com/downloads/en/PackagingSpec/en012702.pdf; ComponentLink3Description: Microchip.com Home; ComponentLink3URL: http://www.microchip.com/
footprint QFN-MR64_N (QFN, 64-Leads, Body 9x9mm, Pitch 0.5mm, IPC Medium Density)
footprint QFN-MR64_L (QFN, 64-Leads, Body 9x9mm, Pitch 0.5mm, IPC High Density)
footprint QFN-MR64_M (QFN, 64-Leads, Body 9x9mm, Pitch 0.5mm, IPC Low Density)
pins: 1 PMD5/RE5 (io), 2 PMD6/RE6 (io), 3 PMD7/RE7 (io), 4 PMA5/SCK2/CN8/RG6 (io), 5 PMA4/SDI2/CN9/RG7 (io), 6 PMA3/SDO2/CN10/RG8 (io), 7 ~{MCLR} (in), 8 PMA2/~{SS2}/CN11/RG9 (io), 9 VSS (power), 10 VDD (power), 11 C1IN+/AN5/CN7/RB5 (io), 12 C1IN-/AN4/CN6/RB4 (io), 13 C2IN+/AN3/CN5/RB3 (io), 14 C2IN-/AN2/~{SS1}/CN4/RB2 (io), 15 PGEC1/AN1/VREF-/CVREF-/CN3/RB1 (io), 16 PGED1/PMA6/AN0/VREF+/CVREF+/CN2/RB0 (io), 17 PGEC2/AN6/OCFA/RB6 (io), 18 PGED2/AN7/RB7 (io), 19 AVDD (power), 20 AVSS (power), 21 ~{U2CTS}/C1OUT/AN8/RB8 (io), 22 PMA7/C2OUT/AN9/RB9 (io), 23 TMS/CVREFOUT/PMA13/AN10/RB10 (io), 24 TDO/PMA12/AN11/RB11 (io), 25 VSS (power), 26 VDD (power), 27 TCK/PMA11/AN12/RB12 (io), 28 TDI/PMA10/AN13/RB13 (io), 29 PMALH/PMA1/~{U2RTS}/BCLK2/AN14/RB14 (io), 30 PMALL/PMA0/AN15/OCFB/CN12/RB15 (io), 31 PMA9/U2RX/SDA2/CN17/RF4 (io), 32 PMA8/U2TX/SCL2/CN18/RF5 (io), 33 U1TX/SDO1/RF3 (io), 34 U1RX/SDI1/RF2 (io), 35 ~{U1RTS}/BCLK1/SCK1/INT0/RF6 (io), 36 SDA1/RG3 (io), 37 SCL1/RG2 (io), 38 VDD (power), 39 OSC1/CLKI/RC12 (io), 40 OSC2/CLKO/RC15 (io), 41 VSS (power), 42 IC1/RTCC/INT1/RD8 (io), 43 IC2/~{U1CTS}/INT2/RD9 (io), 44 IC3/PMCS2/PMA15/INT3/RD10 (io), 45 IC4/PMCS1/PMA14/INT4/RD11 (io), 46 OC1/RD0 (io), 47 SOSCI/CN1/RC13 (io), 48 SOSCO/T1CK/CN0/RC14 (io), 49 OC2/RD1 (io), 50 OC3/RD2 (io), 51 OC4/RD3 (io), 52 PMWR/OC5/IC5/CN13/RD4 (io), 53 PMRD/CN14/RD5 (io), 54 CN15/RD6 (io), 55 CN16/RD7 (io), 56 VCAP/VDDCORE (power), 57 ENVREG (in), 58 RF0 (io), 59 RF1 (io), 60 PMD0/RE0 (io), 61 PMD1/RE1 (io), 62 PMD2/RE2 (io), 63 PMD3/RE3 (io), 64 PMD4/RE4 (io), 65 Thermal Pad

## PIC32MX340F256HT-80I/PT
designator U?
High Performance 80 MHz MIPS-Based 32-Bit Flash Microcontroller, 256KB Program Memory, 64-pin TQFP, Tape and Reel; Published: 2-Dec-2009; DatasheetVersion: revF, Jun-2009; PackageVersion: revBB, Aug-2009; PackageReference: TQFP-PT64; Publisher: Altium Limited; PackageDescription: 64-Lead Thin Plastic Quad Flat Pack (PT) - 10x10x1mm Body, 2.00mm [TQFP]; Supplier 1: Digi-Key; Supplier Part Number 1: PIC32MX340F256HT-80I/PT-ND; Code_JEDEC: MS-026; ComponentLink1Description: Datasheet; ComponentLink1URL: http://ww1.microchip.com/downloads/en/DeviceDoc/61143F.pdf; ComponentLink2Description: Packaging Specification; ComponentLink2URL: http://ww1.microchip.com/downloads/en/PackagingSpec/en012702.pdf; ComponentLink3Description: Microchip.com Home; ComponentLink3URL: http://www.microchip.com/
footprint TQFP-PT64_N (Thin QFP, 64-Leads, Body 10x10mm, Pitch 0.5mm, IPC Medium Density)
footprint TQFP-PT64_L (Thin QFP, 64-Leads, Body 10x10mm, Pitch 0.5mm, IPC High Density)
footprint TQFP-PT64_M (Thin QFP, 64-Leads, Body 10x10mm, Pitch 0.5mm, IPC Low Density)
pins: 1 PMD5/RE5 (io), 2 PMD6/RE6 (io), 3 PMD7/RE7 (io), 4 PMA5/SCK2/CN8/RG6 (io), 5 PMA4/SDI2/CN9/RG7 (io), 6 PMA3/SDO2/CN10/RG8 (io), 7 ~{MCLR} (in), 8 PMA2/~{SS2}/CN11/RG9 (io), 9 VSS (power), 10 VDD (power), 11 C1IN+/AN5/CN7/RB5 (io), 12 C1IN-/AN4/CN6/RB4 (io), 13 C2IN+/AN3/CN5/RB3 (io), 14 C2IN-/AN2/~{SS1}/CN4/RB2 (io), 15 PGEC1/AN1/VREF-/CVREF-/CN3/RB1 (io), 16 PGED1/PMA6/AN0/VREF+/CVREF+/CN2/RB0 (io), 17 PGEC2/AN6/OCFA/RB6 (io), 18 PGED2/AN7/RB7 (io), 19 AVDD (power), 20 AVSS (power), 21 ~{U2CTS}/C1OUT/AN8/RB8 (io), 22 PMA7/C2OUT/AN9/RB9 (io), 23 TMS/CVREFOUT/PMA13/AN10/RB10 (io), 24 TDO/PMA12/AN11/RB11 (io), 25 VSS (power), 26 VDD (power), 27 TCK/PMA11/AN12/RB12 (io), 28 TDI/PMA10/AN13/RB13 (io), 29 PMALH/PMA1/~{U2RTS}/BCLK2/AN14/RB14 (io), 30 PMALL/PMA0/AN15/OCFB/CN12/RB15 (io), 31 PMA9/U2RX/SDA2/CN17/RF4 (io), 32 PMA8/U2TX/SCL2/CN18/RF5 (io), 33 U1TX/SDO1/RF3 (io), 34 U1RX/SDI1/RF2 (io), 35 ~{U1RTS}/BCLK1/SCK1/INT0/RF6 (io), 36 SDA1/RG3 (io), 37 SCL1/RG2 (io), 38 VDD (power), 39 OSC1/CLKI/RC12 (io), 40 OSC2/CLKO/RC15 (io), 41 VSS (power), 42 IC1/RTCC/INT1/RD8 (io), 43 IC2/~{U1CTS}/INT2/RD9 (io), 44 IC3/PMCS2/PMA15/INT3/RD10 (io), 45 IC4/PMCS1/PMA14/INT4/RD11 (io), 46 OC1/RD0 (io), 47 SOSCI/CN1/RC13 (io), 48 SOSCO/T1CK/CN0/RC14 (io), 49 OC2/RD1 (io), 50 OC3/RD2 (io), 51 OC4/RD3 (io), 52 PMWR/OC5/IC5/CN13/RD4 (io), 53 PMRD/CN14/RD5 (io), 54 CN15/RD6 (io), 55 CN16/RD7 (io), 56 VCAP/VDDCORE (power), 57 ENVREG (in), 58 RF0 (io), 59 RF1 (io), 60 PMD0/RE0 (io), 61 PMD1/RE1 (io), 62 PMD2/RE2 (io), 63 PMD3/RE3 (io), 64 PMD4/RE4 (io)

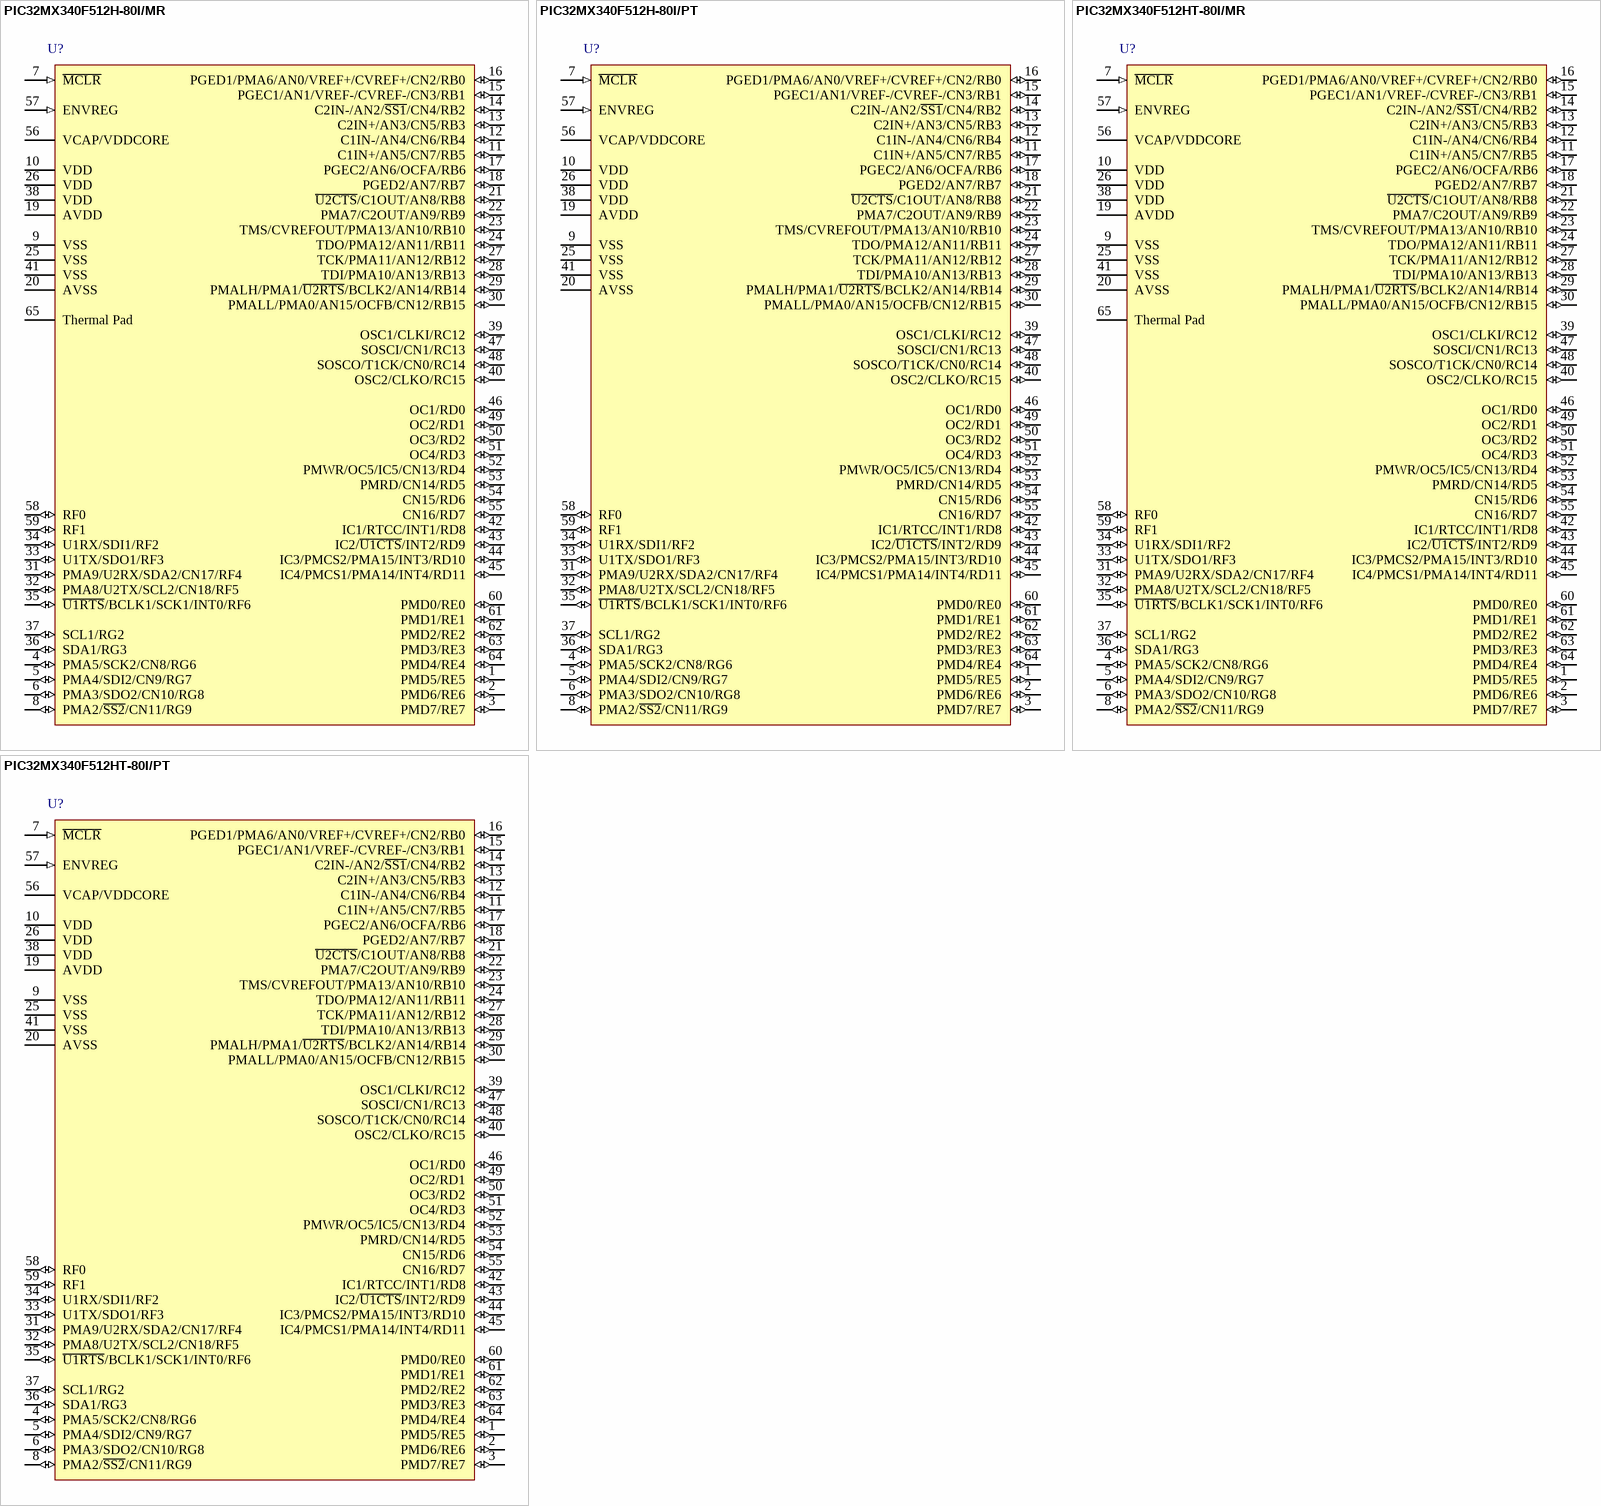
[diagram p6: symbols PIC32MX340F512H-80I/MR to PIC32MX340F512HT-80I/PT]

## PIC32MX340F512H-80I/MR
designator U?
High Performance 80 MHz MIPS-Based 32-Bit Flash Microcontroller, 512KB Program Memory, 64-pin QFN; Published: 2-Dec-2009; DatasheetVersion: revF, Jun-2009; PackageVersion: revBB, Aug-2009; PackageReference: QFN-MR64; Publisher: Altium Limited; PackageDescription: 64-Lead Plastic Quad Flat, No Lead Package (MR) - 9x9x0.9 mm Body [QFN]; Supplier 1: Digi-Key; Supplier Part Number 1: PIC32MX340F512H-80I/MR-ND; Supplier 2: Farnell; Supplier Part Number 2: 1778941; ComponentLink1Description: Datasheet; ComponentLink1URL: http://ww1.microchip.com/downloads/en/DeviceDoc/61143F.pdf; ComponentLink2Description: Packaging Specification; ComponentLink2URL: http://ww1.microchip.com/downloads/en/PackagingSpec/en012702.pdf; ComponentLink3Description: Microchip.com Home; ComponentLink3URL: http://www.microchip.com/
footprint QFN-MR64_N (QFN, 64-Leads, Body 9x9mm, Pitch 0.5mm, IPC Medium Density)
footprint QFN-MR64_L (QFN, 64-Leads, Body 9x9mm, Pitch 0.5mm, IPC High Density)
footprint QFN-MR64_M (QFN, 64-Leads, Body 9x9mm, Pitch 0.5mm, IPC Low Density)
pins: 1 PMD5/RE5 (io), 2 PMD6/RE6 (io), 3 PMD7/RE7 (io), 4 PMA5/SCK2/CN8/RG6 (io), 5 PMA4/SDI2/CN9/RG7 (io), 6 PMA3/SDO2/CN10/RG8 (io), 7 ~{MCLR} (in), 8 PMA2/~{SS2}/CN11/RG9 (io), 9 VSS (power), 10 VDD (power), 11 C1IN+/AN5/CN7/RB5 (io), 12 C1IN-/AN4/CN6/RB4 (io), 13 C2IN+/AN3/CN5/RB3 (io), 14 C2IN-/AN2/~{SS1}/CN4/RB2 (io), 15 PGEC1/AN1/VREF-/CVREF-/CN3/RB1 (io), 16 PGED1/PMA6/AN0/VREF+/CVREF+/CN2/RB0 (io), 17 PGEC2/AN6/OCFA/RB6 (io), 18 PGED2/AN7/RB7 (io), 19 AVDD (power), 20 AVSS (power), 21 ~{U2CTS}/C1OUT/AN8/RB8 (io), 22 PMA7/C2OUT/AN9/RB9 (io), 23 TMS/CVREFOUT/PMA13/AN10/RB10 (io), 24 TDO/PMA12/AN11/RB11 (io), 25 VSS (power), 26 VDD (power), 27 TCK/PMA11/AN12/RB12 (io), 28 TDI/PMA10/AN13/RB13 (io), 29 PMALH/PMA1/~{U2RTS}/BCLK2/AN14/RB14 (io), 30 PMALL/PMA0/AN15/OCFB/CN12/RB15 (io), 31 PMA9/U2RX/SDA2/CN17/RF4 (io), 32 PMA8/U2TX/SCL2/CN18/RF5 (io), 33 U1TX/SDO1/RF3 (io), 34 U1RX/SDI1/RF2 (io), 35 ~{U1RTS}/BCLK1/SCK1/INT0/RF6 (io), 36 SDA1/RG3 (io), 37 SCL1/RG2 (io), 38 VDD (power), 39 OSC1/CLKI/RC12 (io), 40 OSC2/CLKO/RC15 (io), 41 VSS (power), 42 IC1/RTCC/INT1/RD8 (io), 43 IC2/~{U1CTS}/INT2/RD9 (io), 44 IC3/PMCS2/PMA15/INT3/RD10 (io), 45 IC4/PMCS1/PMA14/INT4/RD11 (io), 46 OC1/RD0 (io), 47 SOSCI/CN1/RC13 (io), 48 SOSCO/T1CK/CN0/RC14 (io), 49 OC2/RD1 (io), 50 OC3/RD2 (io), 51 OC4/RD3 (io), 52 PMWR/OC5/IC5/CN13/RD4 (io), 53 PMRD/CN14/RD5 (io), 54 CN15/RD6 (io), 55 CN16/RD7 (io), 56 VCAP/VDDCORE (power), 57 ENVREG (in), 58 RF0 (io), 59 RF1 (io), 60 PMD0/RE0 (io), 61 PMD1/RE1 (io), 62 PMD2/RE2 (io), 63 PMD3/RE3 (io), 64 PMD4/RE4 (io), 65 Thermal Pad

## PIC32MX340F512H-80I/PT
designator U?
High Performance 80 MHz MIPS-Based 32-Bit Flash Microcontroller, 512KB Program Memory, 64-pin TQFP; Published: 29-Jan-2009; LatestRevisionDate: 2-Dec-2009; LatestRevisionNote: Datasheet updated to version revF, Jun-2009.; DatasheetVersion: revF, Jun-2009; PackageVersion: revBB, Aug-2009; PackageReference: TQFP-PT64; Publisher: Altium Limited; PackageDescription: 64-Lead Thin Plastic Quad Flat Pack (PT) - 10x10x1mm Body, 2.00mm [TQFP]; Supplier 1: Digi-Key; Supplier Part Number 1: PIC32MX340F512H-80I/PT-ND; Supplier 2: Farnell; Supplier Part Number 2: 1677915; Code_JEDEC: MS-026; ComponentLink1Description: Datasheet; ComponentLink1URL: http://ww1.microchip.com/downloads/en/DeviceDoc/61143F.pdf; ComponentLink2Description: Packaging Specification; ComponentLink2URL: http://ww1.microchip.com/downloads/en/PackagingSpec/en012702.pdf; ComponentLink3Description: Microchip.com Home; ComponentLink3URL: http://www.microchip.com/
footprint TQFP-PT64_N (Thin QFP, 64-Leads, Body 10x10mm, Pitch 0.5mm, IPC Medium Density)
footprint TQFP-PT64_L (Thin QFP, 64-Leads, Body 10x10mm, Pitch 0.5mm, IPC High Density)
footprint TQFP-PT64_M (Thin QFP, 64-Leads, Body 10x10mm, Pitch 0.5mm, IPC Low Density)
pins: 1 PMD5/RE5 (io), 2 PMD6/RE6 (io), 3 PMD7/RE7 (io), 4 PMA5/SCK2/CN8/RG6 (io), 5 PMA4/SDI2/CN9/RG7 (io), 6 PMA3/SDO2/CN10/RG8 (io), 7 ~{MCLR} (in), 8 PMA2/~{SS2}/CN11/RG9 (io), 9 VSS (power), 10 VDD (power), 11 C1IN+/AN5/CN7/RB5 (io), 12 C1IN-/AN4/CN6/RB4 (io), 13 C2IN+/AN3/CN5/RB3 (io), 14 C2IN-/AN2/~{SS1}/CN4/RB2 (io), 15 PGEC1/AN1/VREF-/CVREF-/CN3/RB1 (io), 16 PGED1/PMA6/AN0/VREF+/CVREF+/CN2/RB0 (io), 17 PGEC2/AN6/OCFA/RB6 (io), 18 PGED2/AN7/RB7 (io), 19 AVDD (power), 20 AVSS (power), 21 ~{U2CTS}/C1OUT/AN8/RB8 (io), 22 PMA7/C2OUT/AN9/RB9 (io), 23 TMS/CVREFOUT/PMA13/AN10/RB10 (io), 24 TDO/PMA12/AN11/RB11 (io), 25 VSS (power), 26 VDD (power), 27 TCK/PMA11/AN12/RB12 (io), 28 TDI/PMA10/AN13/RB13 (io), 29 PMALH/PMA1/~{U2RTS}/BCLK2/AN14/RB14 (io), 30 PMALL/PMA0/AN15/OCFB/CN12/RB15 (io), 31 PMA9/U2RX/SDA2/CN17/RF4 (io), 32 PMA8/U2TX/SCL2/CN18/RF5 (io), 33 U1TX/SDO1/RF3 (io), 34 U1RX/SDI1/RF2 (io), 35 ~{U1RTS}/BCLK1/SCK1/INT0/RF6 (io), 36 SDA1/RG3 (io), 37 SCL1/RG2 (io), 38 VDD (power), 39 OSC1/CLKI/RC12 (io), 40 OSC2/CLKO/RC15 (io), 41 VSS (power), 42 IC1/RTCC/INT1/RD8 (io), 43 IC2/~{U1CTS}/INT2/RD9 (io), 44 IC3/PMCS2/PMA15/INT3/RD10 (io), 45 IC4/PMCS1/PMA14/INT4/RD11 (io), 46 OC1/RD0 (io), 47 SOSCI/CN1/RC13 (io), 48 SOSCO/T1CK/CN0/RC14 (io), 49 OC2/RD1 (io), 50 OC3/RD2 (io), 51 OC4/RD3 (io), 52 PMWR/OC5/IC5/CN13/RD4 (io), 53 PMRD/CN14/RD5 (io), 54 CN15/RD6 (io), 55 CN16/RD7 (io), 56 VCAP/VDDCORE (power), 57 ENVREG (in), 58 RF0 (io), 59 RF1 (io), 60 PMD0/RE0 (io), 61 PMD1/RE1 (io), 62 PMD2/RE2 (io), 63 PMD3/RE3 (io), 64 PMD4/RE4 (io)

## PIC32MX340F512HT-80I/MR
designator U?
High Performance 80 MHz MIPS-Based 32-Bit Flash Microcontroller, 512KB Program Memory, 64-pin QFN, Tape and Reel; Published: 2-Dec-2009; DatasheetVersion: revF, Jun-2009; PackageVersion: revBB, Aug-2009; PackageReference: QFN-MR64; Publisher: Altium Limited; PackageDescription: 64-Lead Plastic Quad Flat, No Lead Package (MR) - 9x9x0.9 mm Body [QFN]; Supplier 1: Digi-Key; Supplier Part Number 1: PIC32MX340F512HT-80I/MR-ND; ComponentLink1Description: Datasheet; ComponentLink1URL: http://ww1.microchip.com/downloads/en/DeviceDoc/61143F.pdf; ComponentLink2Description: Packaging Specification; ComponentLink2URL: http://ww1.microchip.com/downloads/en/PackagingSpec/en012702.pdf; ComponentLink3Description: Microchip.com Home; ComponentLink3URL: http://www.microchip.com/
footprint QFN-MR64_N (QFN, 64-Leads, Body 9x9mm, Pitch 0.5mm, IPC Medium Density)
footprint QFN-MR64_L (QFN, 64-Leads, Body 9x9mm, Pitch 0.5mm, IPC High Density)
footprint QFN-MR64_M (QFN, 64-Leads, Body 9x9mm, Pitch 0.5mm, IPC Low Density)
pins: 1 PMD5/RE5 (io), 2 PMD6/RE6 (io), 3 PMD7/RE7 (io), 4 PMA5/SCK2/CN8/RG6 (io), 5 PMA4/SDI2/CN9/RG7 (io), 6 PMA3/SDO2/CN10/RG8 (io), 7 ~{MCLR} (in), 8 PMA2/~{SS2}/CN11/RG9 (io), 9 VSS (power), 10 VDD (power), 11 C1IN+/AN5/CN7/RB5 (io), 12 C1IN-/AN4/CN6/RB4 (io), 13 C2IN+/AN3/CN5/RB3 (io), 14 C2IN-/AN2/~{SS1}/CN4/RB2 (io), 15 PGEC1/AN1/VREF-/CVREF-/CN3/RB1 (io), 16 PGED1/PMA6/AN0/VREF+/CVREF+/CN2/RB0 (io), 17 PGEC2/AN6/OCFA/RB6 (io), 18 PGED2/AN7/RB7 (io), 19 AVDD (power), 20 AVSS (power), 21 ~{U2CTS}/C1OUT/AN8/RB8 (io), 22 PMA7/C2OUT/AN9/RB9 (io), 23 TMS/CVREFOUT/PMA13/AN10/RB10 (io), 24 TDO/PMA12/AN11/RB11 (io), 25 VSS (power), 26 VDD (power), 27 TCK/PMA11/AN12/RB12 (io), 28 TDI/PMA10/AN13/RB13 (io), 29 PMALH/PMA1/~{U2RTS}/BCLK2/AN14/RB14 (io), 30 PMALL/PMA0/AN15/OCFB/CN12/RB15 (io), 31 PMA9/U2RX/SDA2/CN17/RF4 (io), 32 PMA8/U2TX/SCL2/CN18/RF5 (io), 33 U1TX/SDO1/RF3 (io), 34 U1RX/SDI1/RF2 (io), 35 ~{U1RTS}/BCLK1/SCK1/INT0/RF6 (io), 36 SDA1/RG3 (io), 37 SCL1/RG2 (io), 38 VDD (power), 39 OSC1/CLKI/RC12 (io), 40 OSC2/CLKO/RC15 (io), 41 VSS (power), 42 IC1/RTCC/INT1/RD8 (io), 43 IC2/~{U1CTS}/INT2/RD9 (io), 44 IC3/PMCS2/PMA15/INT3/RD10 (io), 45 IC4/PMCS1/PMA14/INT4/RD11 (io), 46 OC1/RD0 (io), 47 SOSCI/CN1/RC13 (io), 48 SOSCO/T1CK/CN0/RC14 (io), 49 OC2/RD1 (io), 50 OC3/RD2 (io), 51 OC4/RD3 (io), 52 PMWR/OC5/IC5/CN13/RD4 (io), 53 PMRD/CN14/RD5 (io), 54 CN15/RD6 (io), 55 CN16/RD7 (io), 56 VCAP/VDDCORE (power), 57 ENVREG (in), 58 RF0 (io), 59 RF1 (io), 60 PMD0/RE0 (io), 61 PMD1/RE1 (io), 62 PMD2/RE2 (io), 63 PMD3/RE3 (io), 64 PMD4/RE4 (io), 65 Thermal Pad

## PIC32MX340F512HT-80I/PT
designator U?
High Performance 80 MHz MIPS-Based 32-Bit Flash Microcontroller, 512KB Program Memory, 64-pin TQFP, Tape and Reel; Published: 2-Dec-2009; DatasheetVersion: revF, Jun-2009; PackageVersion: revBB, Aug-2009; PackageReference: TQFP-PT64; Publisher: Altium Limited; PackageDescription: 64-Lead Thin Plastic Quad Flat Pack (PT) - 10x10x1mm Body, 2.00mm [TQFP]; Supplier 1: Digi-Key; Supplier Part Number 1: PIC32MX340F512HT-80I/PT-ND; Code_JEDEC: MS-026; ComponentLink1Description: Datasheet; ComponentLink1URL: http://ww1.microchip.com/downloads/en/DeviceDoc/61143F.pdf; ComponentLink2Description: Packaging Specification; ComponentLink2URL: http://ww1.microchip.com/downloads/en/PackagingSpec/en012702.pdf; ComponentLink3Description: Microchip.com Home; ComponentLink3URL: http://www.microchip.com/
footprint TQFP-PT64_N (Thin QFP, 64-Leads, Body 10x10mm, Pitch 0.5mm, IPC Medium Density)
footprint TQFP-PT64_L (Thin QFP, 64-Leads, Body 10x10mm, Pitch 0.5mm, IPC High Density)
footprint TQFP-PT64_M (Thin QFP, 64-Leads, Body 10x10mm, Pitch 0.5mm, IPC Low Density)
pins: 1 PMD5/RE5 (io), 2 PMD6/RE6 (io), 3 PMD7/RE7 (io), 4 PMA5/SCK2/CN8/RG6 (io), 5 PMA4/SDI2/CN9/RG7 (io), 6 PMA3/SDO2/CN10/RG8 (io), 7 ~{MCLR} (in), 8 PMA2/~{SS2}/CN11/RG9 (io), 9 VSS (power), 10 VDD (power), 11 C1IN+/AN5/CN7/RB5 (io), 12 C1IN-/AN4/CN6/RB4 (io), 13 C2IN+/AN3/CN5/RB3 (io), 14 C2IN-/AN2/~{SS1}/CN4/RB2 (io), 15 PGEC1/AN1/VREF-/CVREF-/CN3/RB1 (io), 16 PGED1/PMA6/AN0/VREF+/CVREF+/CN2/RB0 (io), 17 PGEC2/AN6/OCFA/RB6 (io), 18 PGED2/AN7/RB7 (io), 19 AVDD (power), 20 AVSS (power), 21 ~{U2CTS}/C1OUT/AN8/RB8 (io), 22 PMA7/C2OUT/AN9/RB9 (io), 23 TMS/CVREFOUT/PMA13/AN10/RB10 (io), 24 TDO/PMA12/AN11/RB11 (io), 25 VSS (power), 26 VDD (power), 27 TCK/PMA11/AN12/RB12 (io), 28 TDI/PMA10/AN13/RB13 (io), 29 PMALH/PMA1/~{U2RTS}/BCLK2/AN14/RB14 (io), 30 PMALL/PMA0/AN15/OCFB/CN12/RB15 (io), 31 PMA9/U2RX/SDA2/CN17/RF4 (io), 32 PMA8/U2TX/SCL2/CN18/RF5 (io), 33 U1TX/SDO1/RF3 (io), 34 U1RX/SDI1/RF2 (io), 35 ~{U1RTS}/BCLK1/SCK1/INT0/RF6 (io), 36 SDA1/RG3 (io), 37 SCL1/RG2 (io), 38 VDD (power), 39 OSC1/CLKI/RC12 (io), 40 OSC2/CLKO/RC15 (io), 41 VSS (power), 42 IC1/RTCC/INT1/RD8 (io), 43 IC2/~{U1CTS}/INT2/RD9 (io), 44 IC3/PMCS2/PMA15/INT3/RD10 (io), 45 IC4/PMCS1/PMA14/INT4/RD11 (io), 46 OC1/RD0 (io), 47 SOSCI/CN1/RC13 (io), 48 SOSCO/T1CK/CN0/RC14 (io), 49 OC2/RD1 (io), 50 OC3/RD2 (io), 51 OC4/RD3 (io), 52 PMWR/OC5/IC5/CN13/RD4 (io), 53 PMRD/CN14/RD5 (io), 54 CN15/RD6 (io), 55 CN16/RD7 (io), 56 VCAP/VDDCORE (power), 57 ENVREG (in), 58 RF0 (io), 59 RF1 (io), 60 PMD0/RE0 (io), 61 PMD1/RE1 (io), 62 PMD2/RE2 (io), 63 PMD3/RE3 (io), 64 PMD4/RE4 (io)

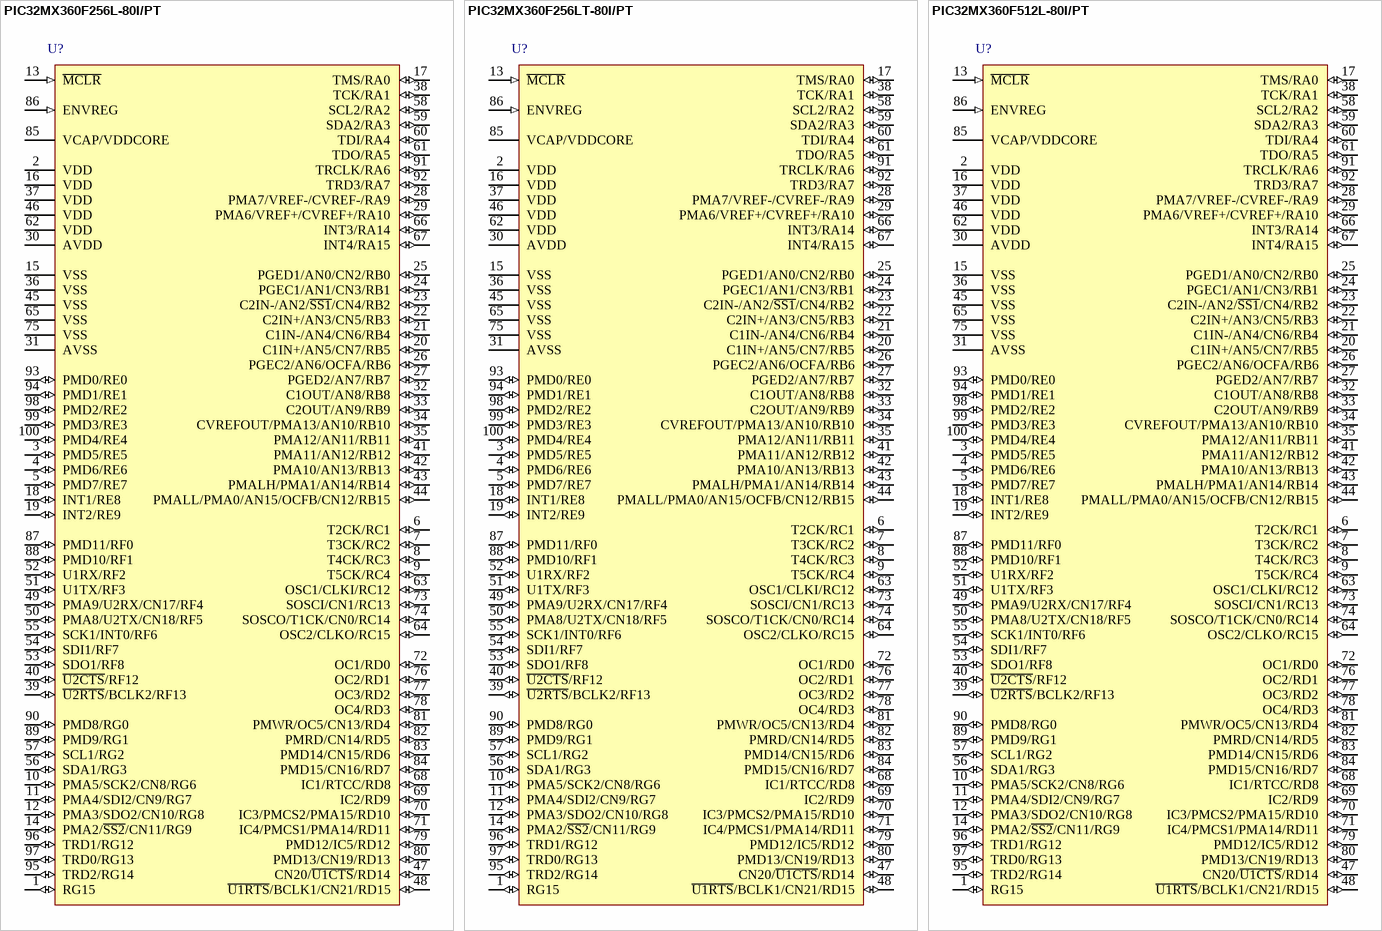
[diagram p7: symbols PIC32MX360F256L-80I/PT to PIC32MX360F512L-80I/PT]

## PIC32MX360F256L-80I/PT
designator U?
High Performance 80 MHz MIPS-Based 32-Bit Flash Microcontroller, 256KB Program Memory, 100-pin TQFP; Published: 29-Jan-2009; LatestRevisionDate: 2-Dec-2009; LatestRevisionNote: Datasheet updated to version revF, Jun-2009.; DatasheetVersion: revF, Jun-2009; PackageVersion: revBB, Aug-2009; PackageReference: TQFP-PT100; Publisher: Altium Limited; PackageDescription: 100-Lead Plastic Thin Quad Flatpack (PT) - 12x12x1mm Body, 2.00mm [TQFP]; Supplier 1: Digi-Key; Supplier Part Number 1: PIC32MX360F256L-80I/PT-ND; Supplier 2: Farnell; Supplier Part Number 2: 1523323; ComponentLink1Description: Datasheet; ComponentLink1URL: http://ww1.microchip.com/downloads/en/DeviceDoc/61143F.pdf; ComponentLink2Description: Packaging Specification; ComponentLink2URL: http://ww1.microchip.com/downloads/en/PackagingSpec/en012702.pdf; ComponentLink3Description: Microchip.com Home; ComponentLink3URL: http://www.microchip.com/
footprint TQFP-PT100_N (Thin QFP, 100-Leads, Body 12x12mm, Pitch 0.4mm, IPC Medium Density)
footprint TQFP-PT100_L (Thin QFP, 100-Leads, Body 12x12mm, Pitch 0.4mm, IPC High Density)
footprint TQFP-PT100_M (Thin QFP, 100-Leads, Body 12x12mm, Pitch 0.4mm, IPC Low Density)
pins: 1 RG15 (io), 2 VDD (power), 3 PMD5/RE5 (io), 4 PMD6/RE6 (io), 5 PMD7/RE7 (io), 6 T2CK/RC1 (io), 7 T3CK/RC2 (io), 8 T4CK/RC3 (io), 9 T5CK/RC4 (io), 10 PMA5/SCK2/CN8/RG6 (io), 11 PMA4/SDI2/CN9/RG7 (io), 12 PMA3/SDO2/CN10/RG8 (io), 13 ~{MCLR} (in), 14 PMA2/~{SS2}/CN11/RG9 (io), 15 VSS (power), 16 VDD (power), 17 TMS/RA0 (io), 18 INT1/RE8 (io), 19 INT2/RE9 (io), 20 C1IN+/AN5/CN7/RB5 (io), 21 C1IN-/AN4/CN6/RB4 (io), 22 C2IN+/AN3/CN5/RB3 (io), 23 C2IN-/AN2/~{SS1}/CN4/RB2 (io), 24 PGEC1/AN1/CN3/RB1 (io), 25 PGED1/AN0/CN2/RB0 (io), 26 PGEC2/AN6/OCFA/RB6 (io), 27 PGED2/AN7/RB7 (io), 28 PMA7/VREF-/CVREF-/RA9 (io), 29 PMA6/VREF+/CVREF+/RA10 (io), 30 AVDD (power), 31 AVSS (power), 32 C1OUT/AN8/RB8 (io), 33 C2OUT/AN9/RB9 (io), 34 CVREFOUT/PMA13/AN10/RB10 (io), 35 PMA12/AN11/RB11 (io), 36 VSS (power), 37 VDD (power), 38 TCK/RA1 (io), 39 ~{U2RTS}/BCLK2/RF13 (io), 40 ~{U2CTS}/RF12 (io), 41 PMA11/AN12/RB12 (io), 42 PMA10/AN13/RB13 (io), 43 PMALH/PMA1/AN14/RB14 (io), 44 PMALL/PMA0/AN15/OCFB/CN12/RB15 (io), 45 VSS (power), 46 VDD (power), 47 CN20/~{U1CTS}/RD14 (io), 48 ~{U1RTS}/BCLK1/CN21/RD15 (io), 49 PMA9/U2RX/CN17/RF4 (io), 50 PMA8/U2TX/CN18/RF5 (io), 51 U1TX/RF3 (io), 52 U1RX/RF2 (io), 53 SDO1/RF8 (io), 54 SDI1/RF7 (io), 55 SCK1/INT0/RF6 (io), 56 SDA1/RG3 (io), 57 SCL1/RG2 (io), 58 SCL2/RA2 (io), 59 SDA2/RA3 (io), 60 TDI/RA4 (io), 61 TDO/RA5 (io), 62 VDD (power), 63 OSC1/CLKI/RC12 (io), 64 OSC2/CLKO/RC15 (io), 65 VSS (power), 66 INT3/RA14 (io), 67 INT4/RA15 (io), 68 IC1/RTCC/RD8 (io), 69 IC2/RD9 (io), 70 IC3/PMCS2/PMA15/RD10 (io), 71 IC4/PMCS1/PMA14/RD11 (io), 72 OC1/RD0 (io), 73 SOSCI/CN1/RC13 (io), 74 SOSCO/T1CK/CN0/RC14 (io), 75 VSS (power), 76 OC2/RD1 (io), 77 OC3/RD2 (io), 78 OC4/RD3 (io), 79 PMD12/IC5/RD12 (io), 80 PMD13/CN19/RD13 (io), 81 PMWR/OC5/CN13/RD4 (io), 82 PMRD/CN14/RD5 (io), 83 PMD14/CN15/RD6 (io), 84 PMD15/CN16/RD7 (io), 85 VCAP/VDDCORE (power), 86 ENVREG (in), 87 PMD11/RF0 (io), 88 PMD10/RF1 (io), 89 PMD9/RG1 (io), 90 PMD8/RG0 (io), 91 TRCLK/RA6 (io), 92 TRD3/RA7 (io), 93 PMD0/RE0 (io), 94 PMD1/RE1 (io), 95 TRD2/RG14 (io), 96 TRD1/RG12 (io), 97 TRD0/RG13 (io), 98 PMD2/RE2 (io), 99 PMD3/RE3 (io), 100 PMD4/RE4 (io)

## PIC32MX360F256LT-80I/PT
designator U?
High Performance 80 MHz MIPS-Based 32-Bit Flash Microcontroller, 256KB Program Memory, 100-pin TQFP, Tape and Reel; Published: 2-Dec-2009; DatasheetVersion: revF, Jun-2009; PackageVersion: revBB, Aug-2009; PackageReference: TQFP-PT100; Publisher: Altium Limited; PackageDescription: 100-Lead Plastic Thin Quad Flatpack (PT) - 12x12x1mm Body, 2.00mm [TQFP]; Supplier 1: Digi-Key; Supplier Part Number 1: PIC32MX360F256LT-80I/PT-ND; ComponentLink1Description: Datasheet; ComponentLink1URL: http://ww1.microchip.com/downloads/en/DeviceDoc/61143F.pdf; ComponentLink2Description: Packaging Specification; ComponentLink2URL: http://ww1.microchip.com/downloads/en/PackagingSpec/en012702.pdf; ComponentLink3Description: Microchip.com Home; ComponentLink3URL: http://www.microchip.com/
footprint TQFP-PT100_N (Thin QFP, 100-Leads, Body 12x12mm, Pitch 0.4mm, IPC Medium Density)
footprint TQFP-PT100_L (Thin QFP, 100-Leads, Body 12x12mm, Pitch 0.4mm, IPC High Density)
footprint TQFP-PT100_M (Thin QFP, 100-Leads, Body 12x12mm, Pitch 0.4mm, IPC Low Density)
pins: 1 RG15 (io), 2 VDD (power), 3 PMD5/RE5 (io), 4 PMD6/RE6 (io), 5 PMD7/RE7 (io), 6 T2CK/RC1 (io), 7 T3CK/RC2 (io), 8 T4CK/RC3 (io), 9 T5CK/RC4 (io), 10 PMA5/SCK2/CN8/RG6 (io), 11 PMA4/SDI2/CN9/RG7 (io), 12 PMA3/SDO2/CN10/RG8 (io), 13 ~{MCLR} (in), 14 PMA2/~{SS2}/CN11/RG9 (io), 15 VSS (power), 16 VDD (power), 17 TMS/RA0 (io), 18 INT1/RE8 (io), 19 INT2/RE9 (io), 20 C1IN+/AN5/CN7/RB5 (io), 21 C1IN-/AN4/CN6/RB4 (io), 22 C2IN+/AN3/CN5/RB3 (io), 23 C2IN-/AN2/~{SS1}/CN4/RB2 (io), 24 PGEC1/AN1/CN3/RB1 (io), 25 PGED1/AN0/CN2/RB0 (io), 26 PGEC2/AN6/OCFA/RB6 (io), 27 PGED2/AN7/RB7 (io), 28 PMA7/VREF-/CVREF-/RA9 (io), 29 PMA6/VREF+/CVREF+/RA10 (io), 30 AVDD (power), 31 AVSS (power), 32 C1OUT/AN8/RB8 (io), 33 C2OUT/AN9/RB9 (io), 34 CVREFOUT/PMA13/AN10/RB10 (io), 35 PMA12/AN11/RB11 (io), 36 VSS (power), 37 VDD (power), 38 TCK/RA1 (io), 39 ~{U2RTS}/BCLK2/RF13 (io), 40 ~{U2CTS}/RF12 (io), 41 PMA11/AN12/RB12 (io), 42 PMA10/AN13/RB13 (io), 43 PMALH/PMA1/AN14/RB14 (io), 44 PMALL/PMA0/AN15/OCFB/CN12/RB15 (io), 45 VSS (power), 46 VDD (power), 47 CN20/~{U1CTS}/RD14 (io), 48 ~{U1RTS}/BCLK1/CN21/RD15 (io), 49 PMA9/U2RX/CN17/RF4 (io), 50 PMA8/U2TX/CN18/RF5 (io), 51 U1TX/RF3 (io), 52 U1RX/RF2 (io), 53 SDO1/RF8 (io), 54 SDI1/RF7 (io), 55 SCK1/INT0/RF6 (io), 56 SDA1/RG3 (io), 57 SCL1/RG2 (io), 58 SCL2/RA2 (io), 59 SDA2/RA3 (io), 60 TDI/RA4 (io), 61 TDO/RA5 (io), 62 VDD (power), 63 OSC1/CLKI/RC12 (io), 64 OSC2/CLKO/RC15 (io), 65 VSS (power), 66 INT3/RA14 (io), 67 INT4/RA15 (io), 68 IC1/RTCC/RD8 (io), 69 IC2/RD9 (io), 70 IC3/PMCS2/PMA15/RD10 (io), 71 IC4/PMCS1/PMA14/RD11 (io), 72 OC1/RD0 (io), 73 SOSCI/CN1/RC13 (io), 74 SOSCO/T1CK/CN0/RC14 (io), 75 VSS (power), 76 OC2/RD1 (io), 77 OC3/RD2 (io), 78 OC4/RD3 (io), 79 PMD12/IC5/RD12 (io), 80 PMD13/CN19/RD13 (io), 81 PMWR/OC5/CN13/RD4 (io), 82 PMRD/CN14/RD5 (io), 83 PMD14/CN15/RD6 (io), 84 PMD15/CN16/RD7 (io), 85 VCAP/VDDCORE (power), 86 ENVREG (in), 87 PMD11/RF0 (io), 88 PMD10/RF1 (io), 89 PMD9/RG1 (io), 90 PMD8/RG0 (io), 91 TRCLK/RA6 (io), 92 TRD3/RA7 (io), 93 PMD0/RE0 (io), 94 PMD1/RE1 (io), 95 TRD2/RG14 (io), 96 TRD1/RG12 (io), 97 TRD0/RG13 (io), 98 PMD2/RE2 (io), 99 PMD3/RE3 (io), 100 PMD4/RE4 (io)